# Altium schematic symbol library CM.SchLib: 57 symbols (part 1 of 2)
Pins are listed as number, name and electrical type; pins without a type are passive.

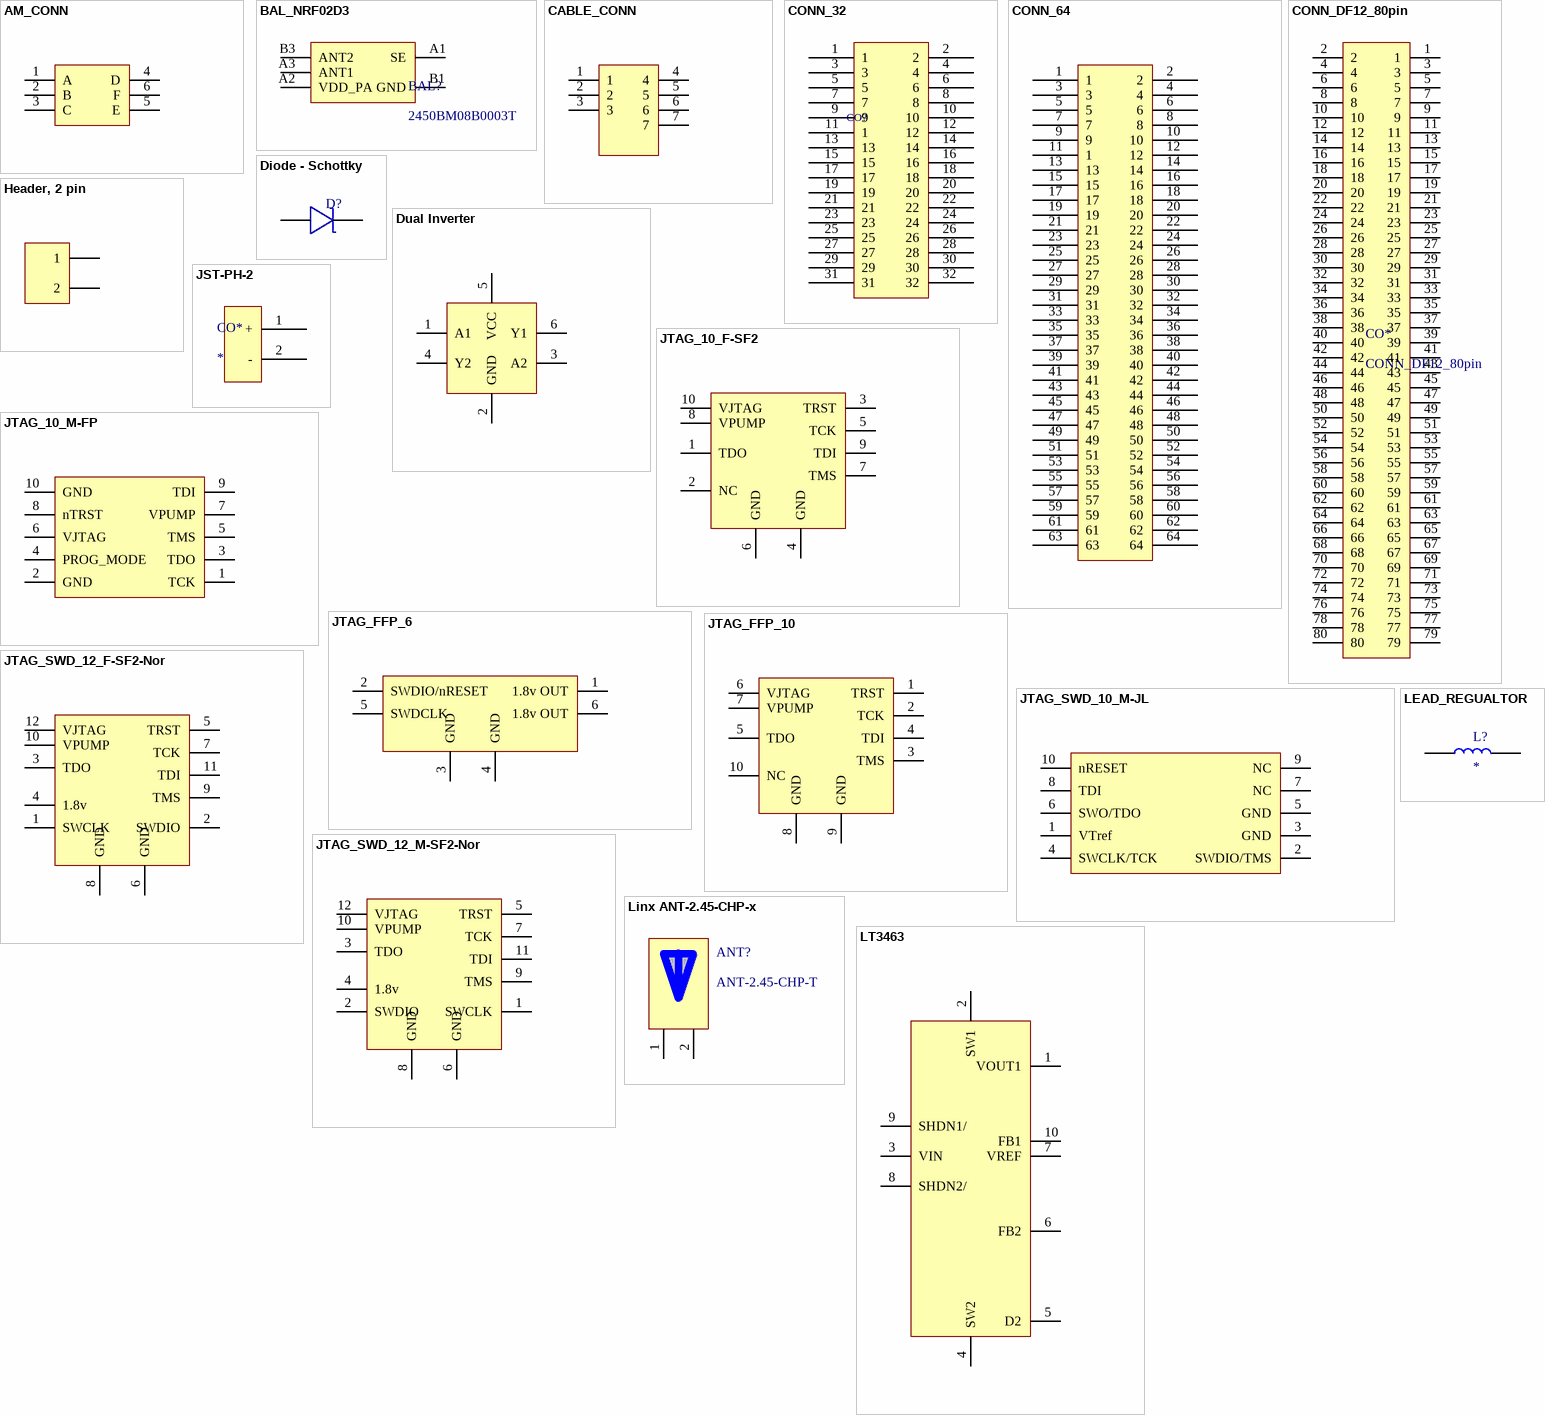
[diagram p0: symbols AM_CONN to LT3463]

## AM_CONN
designator CO?, comment A79613-001
Manufacturer: Omnetics; Manufacturer PN: A79613-001
footprint AM_conn_th
pins: 1 A, 2 B, 3 C, 4 D, 5 E, 6 F

## BAL_NRF02D3
designator BAL?, comment 2450BM08B0003T
BALUN; Manufacturer: Johnson; Supplier PN: 712-1582-1-ND; Supplier: Digikey; Manufacturer PN: 2450BM08B0003T
footprint BALUN_PACKAGE
pins: A1 SE, A2 VDD_PA, A3 ANT1, B1 GND, B3 ANT2

## CABLE_CONN
designator CO?
Alternate connection to AM cable
footprint cable_conn
pins: 1, 2, 3, 4, 5, 6, 7

## CONN_32
designator CO?
footprint CONN_100MIL_32
pins: 1, 2, 3, 4, 5, 6, 7, 8, 9, 10, 11 1, 12, 13, 14, 15, 16, 17, 18, 19, 20, 21, 22, 23, 24, 25, 26, 27, 28, 29, 30, 31, 32

## CONN_64
designator CO?
footprint CONN_FPC_XF2W-6415-1AE (64 pin FFC connector)
footprint CONN_100MIL_64
pins: 1, 2, 3, 4, 5, 6, 7, 8, 9, 10, 11 1, 12, 13, 14, 15, 16, 17, 18, 19, 20, 21, 22, 23, 24, 25, 26, 27, 28, 29, 30, 31, 32, 33, 34, 35, 36, 37, 38, 39, 40, 41, 42, 43, 44, 45, 46, 47, 48, 49, 50, 51, 52, 53, 54, 55, 56, 57, 58, 59, 60, 61, 62, 63, 64

## CONN_DF12_80pin
designator CO*
Manufacturer PN: DF12(3.0)-80DP-0.5V; Manufacturer: Hirose; Supplier PN: H5225CT-ND; Supplier: Digikey
footprint CONN_DF12(3.0)-80DP_bottom (Hirose header 80 pos 3.0mm stack height 0.5mm pitch, pin guides, for mirroring)
footprint CONN_DF12(3.0)-80DP_top (Hirose header 80 pos 3.0mm stack height 0.5mm pitch, pin guides, for top mounting)
pins: 1, 2, 3, 4, 5, 6, 7, 8, 9, 10, 11, 12, 13, 14, 15, 16, 17, 18, 19, 20, 21, 22, 23, 24, 25, 26, 27, 28, 29, 30, 31, 32, 33, 34, 35, 36, 37, 38, 39, 40, 41, 42, 43, 44, 45, 46, 47, 48, 49, 50, 51, 52, 53, 54, 55, 56, 57, 58, 59, 60, 61, 62, 63, 64, 65, 66, 67, 68, 69, 70, 71, 72, 73, 74, 75, 76, 77, 78, 79, 80

## Diode - Schottky
designator D?
Supplier: Digikey
footprint X3-WLB1006-2
footprint fSC_toshiba (diode)
pins: 1 C, 2 A

## Dual Inverter
designator U?, comment NC7WV04L6X
IC; Manufacturer: Fairchild; Manufacturer PN: NC7WV04L6X; Supplier: Digikey; Supplier PN: NC7WV04L6XCT-ND
footprint 6micropak
pins: 1 A1, 2 GND, 3 A2, 4 Y2, 5 VCC, 6 Y1

## Header, 2 pin
designator CO?
footprint Header, 2 pin, 100mil
footprint Header, 2 pin, 2mm(79mil)
footprint Header, 2 pin, 2mm(79mil), no outline
pins: 1, 2

## JST-PH-2
designator CO*
Supplier: *
footprint JST-PH-2-TE-TH (JST connector, PH type, 2 pin, top entry, through-hole)
pins: 1 +, 2 -

## JTAG_10_F-SF2
designator CO
10 pin female JTAG header for SmartFusion2; Manufacturer: Samtec; Manufacturer PN: CLP-105-02-x-D; Supplier: Digikey; Supplier PN: SAM1153-05-ND
footprint CONN_10-CLP (CLP-105-xx-x-D)
pins: 1 TDO, 2 NC, 3 TRST, 4 GND (power), 5 TCK, 6 GND (power), 7 TMS, 8 VPUMP (power), 9 TDI, 10 VJTAG (power)

## JTAG_10_M-FP
designator CO
10 pin male JTAG header for FlashPro; Manufacturer: Samtec; Manufacturer PN: FTS(H)-
footprint CONN_10-TSM (TSM-105-XX-X-dv-X)
pins: 1 TCK, 2 GND, 3 TDO, 4 PROG_MODE, 5 TMS, 6 VJTAG (power), 7 VPUMP, 8 nTRST (power), 9 TDI, 10 GND (power)

## JTAG_FFP_6
designator CO
Manufacturer: *; Manufacturer PN: *; Supplier: Digikey; Supplier PN: *
footprint ffp-6pin
pins: 1 1.8v OUT (power), 2 SWDIO/nRESET, 3 GND (power), 4 GND (power), 5 SWDCLK, 6 1.8v OUT (power)

## JTAG_FFP_10
designator CO
Manufacturer: *; Manufacturer PN: *; Supplier: Digikey; Supplier PN: *
footprint ffp-10pin
pins: 1 TRST, 2 TCK, 3 TMS, 4 TDI, 5 TDO, 6 VJTAG (power), 7 VPUMP (power), 8 GND (power), 9 GND (power), 10 NC

## JTAG_SWD_10_M-JL
designator CO
10 pin male JTAG/SWD header for Jlink; Manufacturer: Samtec; Manufacturer PN: FTS(H)-
footprint CONN_10-FTSH (FTSH-105-xx-x-DV)
footprint CONN_10-TSM (TSM-105-XX-X-dv-X)
footprint CONN_10-M50 (M50-3600542)
pins: 1 VTref, 2 SWDIO/TMS, 3 GND, 4 SWCLK/TCK, 5 GND, 6 SWO/TDO (power), 7 NC, 8 TDI (power), 9 NC, 10 nRESET (power)

## JTAG_SWD_12_F-SF2-Nor
designator CO
12 pin female JTAG/SWD header for SmartFusion2 and Nordic; Manufacturer: Samtec; Manufacturer PN: CLP-105-02-x-D; Supplier: Digikey; Supplier PN: SAM1153-05-ND
footprint CONN_12-CLP (CLP-106-xx-x-D)
pins: 1 SWCLK, 2 SWDIO, 3 TDO, 4 1.8v, 5 TRST, 6 GND (power), 7 TCK, 8 GND (power), 9 TMS, 10 VPUMP (power), 11 TDI, 12 VJTAG (power)

## JTAG_SWD_12_M-SF2-Nor
designator CO
12 pin male JTAG/SWD header for SmartFusion2 and Nordic; Manufacturer: Samtec; Manufacturer PN: FTS(H)-
footprint CONN_12-FTSH - flipped (FTSH-106-xx-x-DV)
pins: 1 SWCLK, 2 SWDIO, 3 TDO, 4 1.8v, 5 TRST, 6 GND (power), 7 TCK, 8 GND (power), 9 TMS, 10 VPUMP (power), 11 TDI, 12 VJTAG (power)

## LEAD_REGUALTOR
designator L?
Inductor
footprint LEAD_REGULATOR
pins: 1, 2

## Linx ANT-2.45-CHP-x
designator ANT?, comment ANT-2.45-CHP-T
Amtenna; Manufacturer: Linx; Supplier PN: ANT-2.45-CHPCT-ND; Supplier: Digikey; Manufacturer PN: ANT-2.45-CHP-T
footprint ANTENNACHIP
pins: 1 IN, 2 NC

## LT3463
designator U?, comment LT3463EDD#PBF
Buck/boost DC-DC; Manufacturer: Linear; Manufacturer PN: LT3463EDD#PBF; Supplier: Digikey; Supplier PN: LT3463EDD#PBF-ND
footprint DFN-10
pins: 1 VOUT1, 2 SW1, 3 VIN, 4 SW2, 5 D2, 6 FB2, 7 VREF, 8 SHDN2/, 9 SHDN1/, 10 FB1, 11 GND hidden to GND

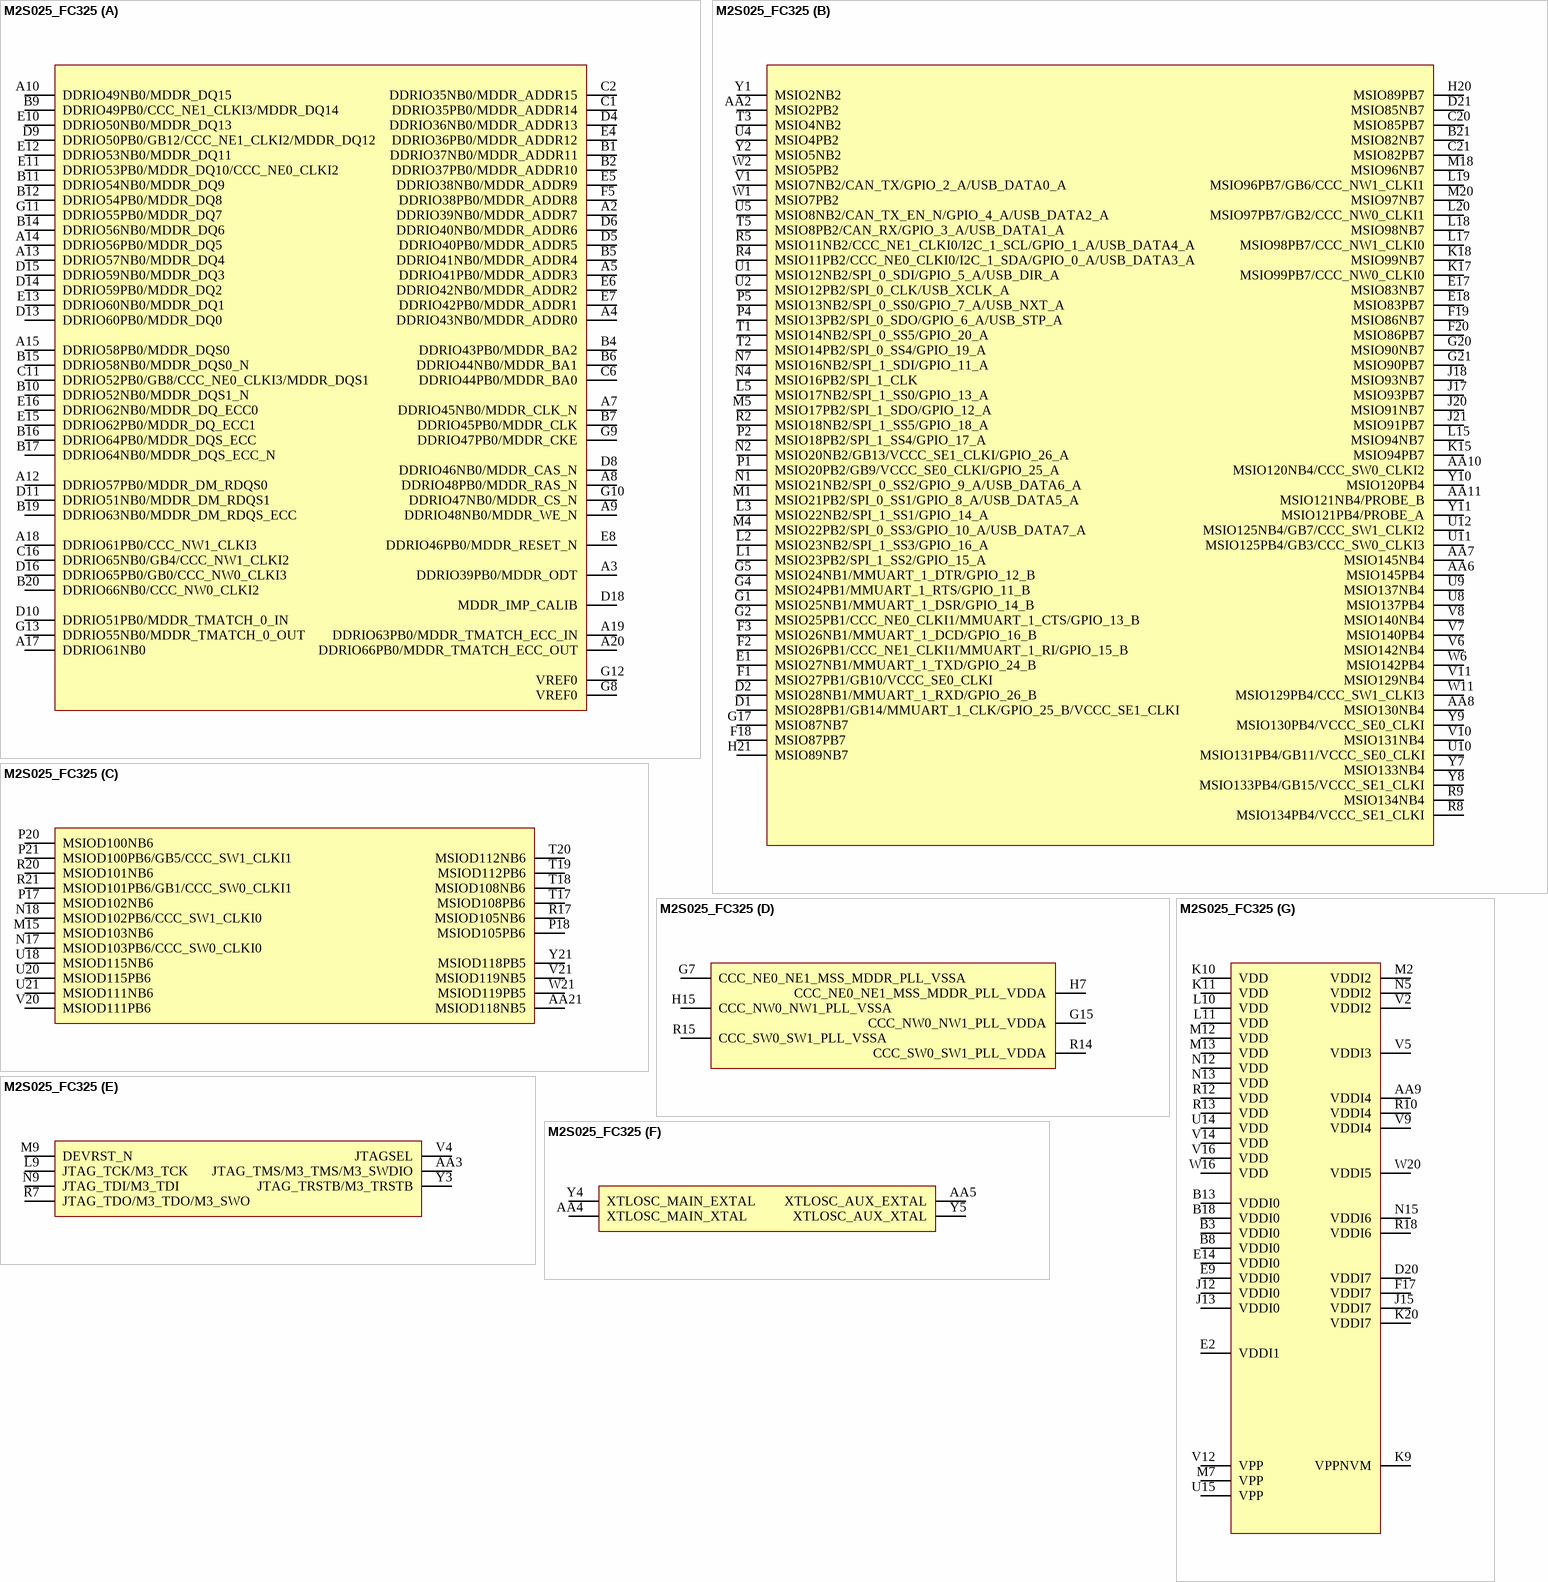
[diagram p1: symbol M2S025_FC325]

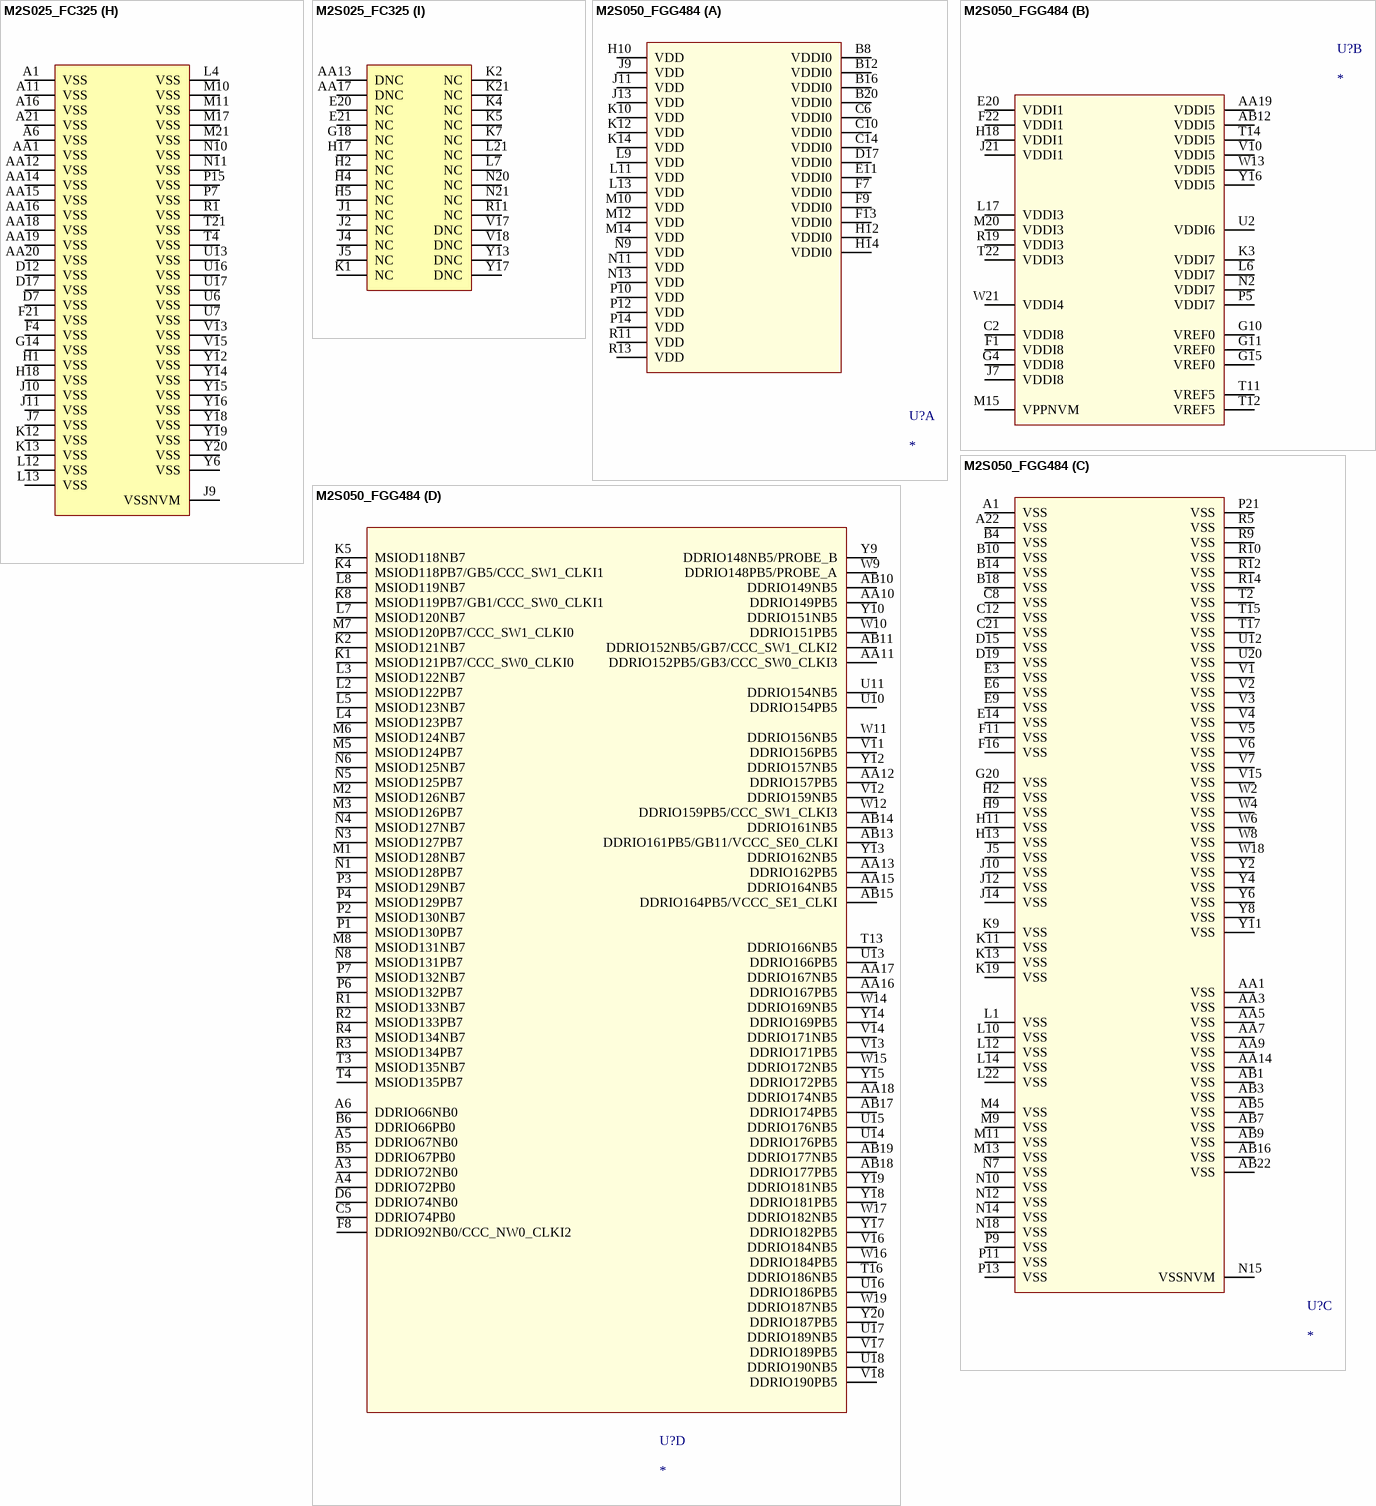
[diagram p2: symbols M2S025_FC325 to M2S050_FGG484]

## M2S025_FC325
designator U?
SmartFusion2; Manufacturer PN: M2S025-FCS325; Manufacturer: Microsemi; Supplier: Microsemi; Supplier PN: M2S025-FCSG325I
footprint MCSM-CS-325 (BGA, 325-Balls, Body 11x11mm, Pitch 0.5mm)
part A pins: A2 DDRIO39NB0/MDDR_ADDR7, A3 DDRIO39PB0/MDDR_ODT, A4 DDRIO43NB0/MDDR_ADDR0, A5 DDRIO41PB0/MDDR_ADDR3, A7 DDRIO45NB0/MDDR_CLK_N, A8 DDRIO48PB0/MDDR_RAS_N, A9 DDRIO48NB0/MDDR_WE_N, A10 DDRIO49NB0/MDDR_DQ15, A12 DDRIO57PB0/MDDR_DM_RDQS0, A13 DDRIO57NB0/MDDR_DQ4, A14 DDRIO56PB0/MDDR_DQ5, A15 DDRIO58PB0/MDDR_DQS0, A17 DDRIO61NB0, A18 DDRIO61PB0/CCC_NW1_CLKI3, A19 DDRIO63PB0/MDDR_TMATCH_ECC_IN, A20 DDRIO66PB0/MDDR_TMATCH_ECC_OUT, B1 DDRIO37NB0/MDDR_ADDR11, B2 DDRIO37PB0/MDDR_ADDR10, B4 DDRIO43PB0/MDDR_BA2, B5 DDRIO41NB0/MDDR_ADDR4, B6 DDRIO44NB0/MDDR_BA1, B7 DDRIO45PB0/MDDR_CLK, B9 DDRIO49PB0/CCC_NE1_CLKI3/MDDR_DQ14, B10 DDRIO52NB0/MDDR_DQS1_N, B11 DDRIO54NB0/MDDR_DQ9, B12 DDRIO54PB0/MDDR_DQ8, B14 DDRIO56NB0/MDDR_DQ6, B15 DDRIO58NB0/MDDR_DQS0_N, B16 DDRIO64PB0/MDDR_DQS_ECC, B17 DDRIO64NB0/MDDR_DQS_ECC_N, B19 DDRIO63NB0/MDDR_DM_RDQS_ECC, B20 DDRIO66NB0/CCC_NW0_CLKI2, C1 DDRIO35PB0/MDDR_ADDR14, C2 DDRIO35NB0/MDDR_ADDR15, C6 DDRIO44PB0/MDDR_BA0, C11 DDRIO52PB0/GB8/CCC_NE0_CLKI3/MDDR_DQS1, C16 DDRIO65NB0/GB4/CCC_NW1_CLKI2, D4 DDRIO36NB0/MDDR_ADDR13, D5 DDRIO40PB0/MDDR_ADDR5, D6 DDRIO40NB0/MDDR_ADDR6, D8 DDRIO46NB0/MDDR_CAS_N, D9 DDRIO50PB0/GB12/CCC_NE1_CLKI2/MDDR_DQ12, D10 DDRIO51PB0/MDDR_TMATCH_0_IN, D11 DDRIO51NB0/MDDR_DM_RDQS1, D13 DDRIO60PB0/MDDR_DQ0, D14 DDRIO59PB0/MDDR_DQ2, D15 DDRIO59NB0/MDDR_DQ3, D16 DDRIO65PB0/GB0/CCC_NW0_CLKI3, D18 MDDR_IMP_CALIB, E4 DDRIO36PB0/MDDR_ADDR12, E5 DDRIO38NB0/MDDR_ADDR9, E6 DDRIO42NB0/MDDR_ADDR2, E7 DDRIO42PB0/MDDR_ADDR1, E8 DDRIO46PB0/MDDR_RESET_N, E10 DDRIO50NB0/MDDR_DQ13, E11 DDRIO53PB0/MDDR_DQ10/CCC_NE0_CLKI2, E12 DDRIO53NB0/MDDR_DQ11, E13 DDRIO60NB0/MDDR_DQ1, E15 DDRIO62PB0/MDDR_DQ_ECC1, E16 DDRIO62NB0/MDDR_DQ_ECC0, F5 DDRIO38PB0/MDDR_ADDR8, G8 VREF0, G9 DDRIO47PB0/MDDR_CKE, G10 DDRIO47NB0/MDDR_CS_N, G11 DDRIO55PB0/MDDR_DQ7, G12 VREF0, G13 DDRIO55NB0/MDDR_TMATCH_0_OUT
part B pins: AA2 MSIO2PB2, AA6 MSIO145PB4, AA7 MSIO145NB4, AA8 MSIO130NB4, AA10 MSIO120NB4/CCC_SW0_CLKI2, AA11 MSIO121NB4/PROBE_B, B21 MSIO82NB7, C20 MSIO85PB7, C21 MSIO82PB7, D1 MSIO28PB1/GB14/MMUART_1_CLK/GPIO_25_B/VCCC_SE1_CLKI, D2 MSIO28NB1/MMUART_1_RXD/GPIO_26_B, D21 MSIO85NB7, E1 MSIO27NB1/MMUART_1_TXD/GPIO_24_B, E17 MSIO83NB7, E18 MSIO83PB7, F1 MSIO27PB1/GB10/VCCC_SE0_CLKI, F2 MSIO26PB1/CCC_NE1_CLKI1/MMUART_1_RI/GPIO_15_B, F3 MSIO26NB1/MMUART_1_DCD/GPIO_16_B, F18 MSIO87PB7, F19 MSIO86NB7, F20 MSIO86PB7, G1 MSIO25NB1/MMUART_1_DSR/GPIO_14_B, G2 MSIO25PB1/CCC_NE0_CLKI1/MMUART_1_CTS/GPIO_13_B, G4 MSIO24PB1/MMUART_1_RTS/GPIO_11_B, G5 MSIO24NB1/MMUART_1_DTR/GPIO_12_B, G17 MSIO87NB7, G20 MSIO90NB7, G21 MSIO90PB7, H20 MSIO89PB7, H21 MSIO89NB7, J17 MSIO93PB7, J18 MSIO93NB7, J20 MSIO91NB7, J21 MSIO91PB7, K15 MSIO94PB7, K17 MSIO99PB7/CCC_NW0_CLKI0, K18 MSIO99NB7, L1 MSIO23PB2/SPI_1_SS2/GPIO_15_A, L2 MSIO23NB2/SPI_1_SS3/GPIO_16_A, L3 MSIO22NB2/SPI_1_SS1/GPIO_14_A, L5 MSIO17NB2/SPI_1_SS0/GPIO_13_A, L15 MSIO94NB7, L17 MSIO98PB7/CCC_NW1_CLKI0, L18 MSIO98NB7, L19 MSIO96PB7/GB6/CCC_NW1_CLKI1, L20 MSIO97PB7/GB2/CCC_NW0_CLKI1, M1 MSIO21PB2/SPI_0_SS1/GPIO_8_A/USB_DATA5_A, M4 MSIO22PB2/SPI_0_SS3/GPIO_10_A/USB_DATA7_A, M5 MSIO17PB2/SPI_1_SDO/GPIO_12_A, M18 MSIO96NB7, M20 MSIO97NB7, N1 MSIO21NB2/SPI_0_SS2/GPIO_9_A/USB_DATA6_A, N2 MSIO20NB2/GB13/VCCC_SE1_CLKI/GPIO_26_A, N4 MSIO16PB2/SPI_1_CLK, N7 MSIO16NB2/SPI_1_SDI/GPIO_11_A, P1 MSIO20PB2/GB9/VCCC_SE0_CLKI/GPIO_25_A, P2 MSIO18PB2/SPI_1_SS4/GPIO_17_A, P4 MSIO13PB2/SPI_0_SDO/GPIO_6_A/USB_STP_A, P5 MSIO13NB2/SPI_0_SS0/GPIO_7_A/USB_NXT_A, R2 MSIO18NB2/SPI_1_SS5/GPIO_18_A, R4 MSIO11PB2/CCC_NE0_CLKI0/I2C_1_SDA/GPIO_0_A/USB_DATA3_A, R5 MSIO11NB2/CCC_NE1_CLKI0/I2C_1_SCL/GPIO_1_A/USB_DATA4_A, R8 MSIO134PB4/VCCC_SE1_CLKI, R9 MSIO134NB4, T1 MSIO14NB2/SPI_0_SS5/GPIO_20_A, T2 MSIO14PB2/SPI_0_SS4/GPIO_19_A, T3 MSIO4NB2, T5 MSIO8PB2/CAN_RX/GPIO_3_A/USB_DATA1_A, U1 MSIO12NB2/SPI_0_SDI/GPIO_5_A/USB_DIR_A, U2 MSIO12PB2/SPI_0_CLK/USB_XCLK_A, U4 MSIO4PB2, U5 MSIO8NB2/CAN_TX_EN_N/GPIO_4_A/USB_DATA2_A, U8 MSIO137PB4, U9 MSIO137NB4, U10 MSIO131PB4/GB11/VCCC_SE0_CLKI, U11 MSIO125PB4/GB3/CCC_SW0_CLKI3, U12 MSIO125NB4/GB7/CCC_SW1_CLKI2, V1 MSIO7NB2/CAN_TX/GPIO_2_A/USB_DATA0_A, V6 MSIO142NB4, V7 MSIO140PB4, V8 MSIO140NB4, V10 MSIO131NB4, V11 MSIO129NB4, W1 MSIO7PB2, W2 MSIO5PB2, W6 MSIO142PB4, W11 MSIO129PB4/CCC_SW1_CLKI3, Y1 MSIO2NB2, Y2 MSIO5NB2, Y7 MSIO133NB4, Y8 MSIO133PB4/GB15/VCCC_SE1_CLKI, Y9 MSIO130PB4/VCCC_SE0_CLKI, Y10 MSIO120PB4, Y11 MSIO121PB4/PROBE_A
part C pins: AA21 MSIOD118NB5, M15 MSIOD103NB6, N17 MSIOD103PB6/CCC_SW0_CLKI0, N18 MSIOD102PB6/CCC_SW1_CLKI0, P17 MSIOD102NB6, P18 MSIOD105PB6, P20 MSIOD100NB6, P21 MSIOD100PB6/GB5/CCC_SW1_CLKI1, R17 MSIOD105NB6, R20 MSIOD101NB6, R21 MSIOD101PB6/GB1/CCC_SW0_CLKI1, T17 MSIOD108PB6, T18 MSIOD108NB6, T19 MSIOD112PB6, T20 MSIOD112NB6, U18 MSIOD115NB6, U20 MSIOD115PB6, U21 MSIOD111NB6, V20 MSIOD111PB6, V21 MSIOD119NB5, W21 MSIOD119PB5, Y21 MSIOD118PB5
part D pins: G7 CCC_NE0_NE1_MSS_MDDR_PLL_VSSA (power), G15 CCC_NW0_NW1_PLL_VDDA (power), H7 CCC_NE0_NE1_MSS_MDDR_PLL_VDDA (power), H15 CCC_NW0_NW1_PLL_VSSA (power), R14 CCC_SW0_SW1_PLL_VDDA (power), R15 CCC_SW0_SW1_PLL_VSSA (power)
part E pins: AA3 JTAG_TMS/M3_TMS/M3_SWDIO, L9 JTAG_TCK/M3_TCK, M9 DEVRST_N, N9 JTAG_TDI/M3_TDI, R7 JTAG_TDO/M3_TDO/M3_SWO, V4 JTAGSEL, Y3 JTAG_TRSTB/M3_TRSTB
part F pins: AA4 XTLOSC_MAIN_XTAL, AA5 XTLOSC_AUX_EXTAL, Y4 XTLOSC_MAIN_EXTAL, Y5 XTLOSC_AUX_XTAL
part G pins: AA9 VDDI4, B3 VDDI0, B8 VDDI0, B13 VDDI0, B18 VDDI0, D20 VDDI7, E2 VDDI1 (power), E9 VDDI0, E14 VDDI0, F17 VDDI7, J12 VDDI0, J13 VDDI0, J15 VDDI7, K9 VPPNVM (power), K10 VDD (power), K11 VDD (power), K20 VDDI7, L10 VDD (power), L11 VDD (power), M2 VDDI2 (power), M7 VPP (power), M12 VDD (power), M13 VDD (power), N5 VDDI2 (power), N12 VDD (power), N13 VDD (power), N15 VDDI6 (power), R10 VDDI4, R12 VDD (power), R13 VDD (power), R18 VDDI6, U14 VDD (power), U15 VPP (power), V2 VDDI2 (power), V5 VDDI3, V9 VDDI4, V12 VPP (power), V14 VDD (power), V16 VDD (power), W16 VDD (power), W20 VDDI5
part H pins: A1 VSS (power), A6 VSS (power), A11 VSS (power), A16 VSS (power), A21 VSS (power), AA1 VSS (power), AA12 VSS (power), AA14 VSS (power), AA15 VSS (power), AA16 VSS (power), AA18 VSS (power), AA19 VSS (power), AA20 VSS (power), D7 VSS (power), D12 VSS (power), D17 VSS (power), F4 VSS (power), F21 VSS (power), G14 VSS (power), H1 VSS (power), H18 VSS (power), J7 VSS (power), J9 VSSNVM (power), J10 VSS (power), J11 VSS (power), K12 VSS (power), K13 VSS (power), L4 VSS (power), L12 VSS (power), L13 VSS (power), M10 VSS (power), M11 VSS (power), M17 VSS (power), M21 VSS (power), N10 VSS (power), N11 VSS (power), P7 VSS (power), P15 VSS (power), R1 VSS (power), T4 VSS (power), T21 VSS (power), U6 VSS (power), U7 VSS (power), U13 VSS (power), U16 VSS (power), U17 VSS (power), V13 VSS (power), V15 VSS (power), Y6 VSS (power), Y12 VSS (power), Y14 VSS (power), Y15 VSS (power), Y16 VSS (power), Y18 VSS (power), Y19 VSS (power), Y20 VSS (power)
part I pins: AA13 DNC, AA17 DNC, E20 NC, E21 NC, G18 NC, H2 NC, H4 NC, H5 NC, H17 NC, J1 NC, J2 NC, J4 NC, J5 NC (power), K1 NC, K2 NC, K4 NC, K5 NC, K7 NC, K21 NC, L7 NC, L21 NC, N20 NC, N21 NC, R11 NC, V17 DNC, V18 DNC (power), Y13 DNC, Y17 DNC

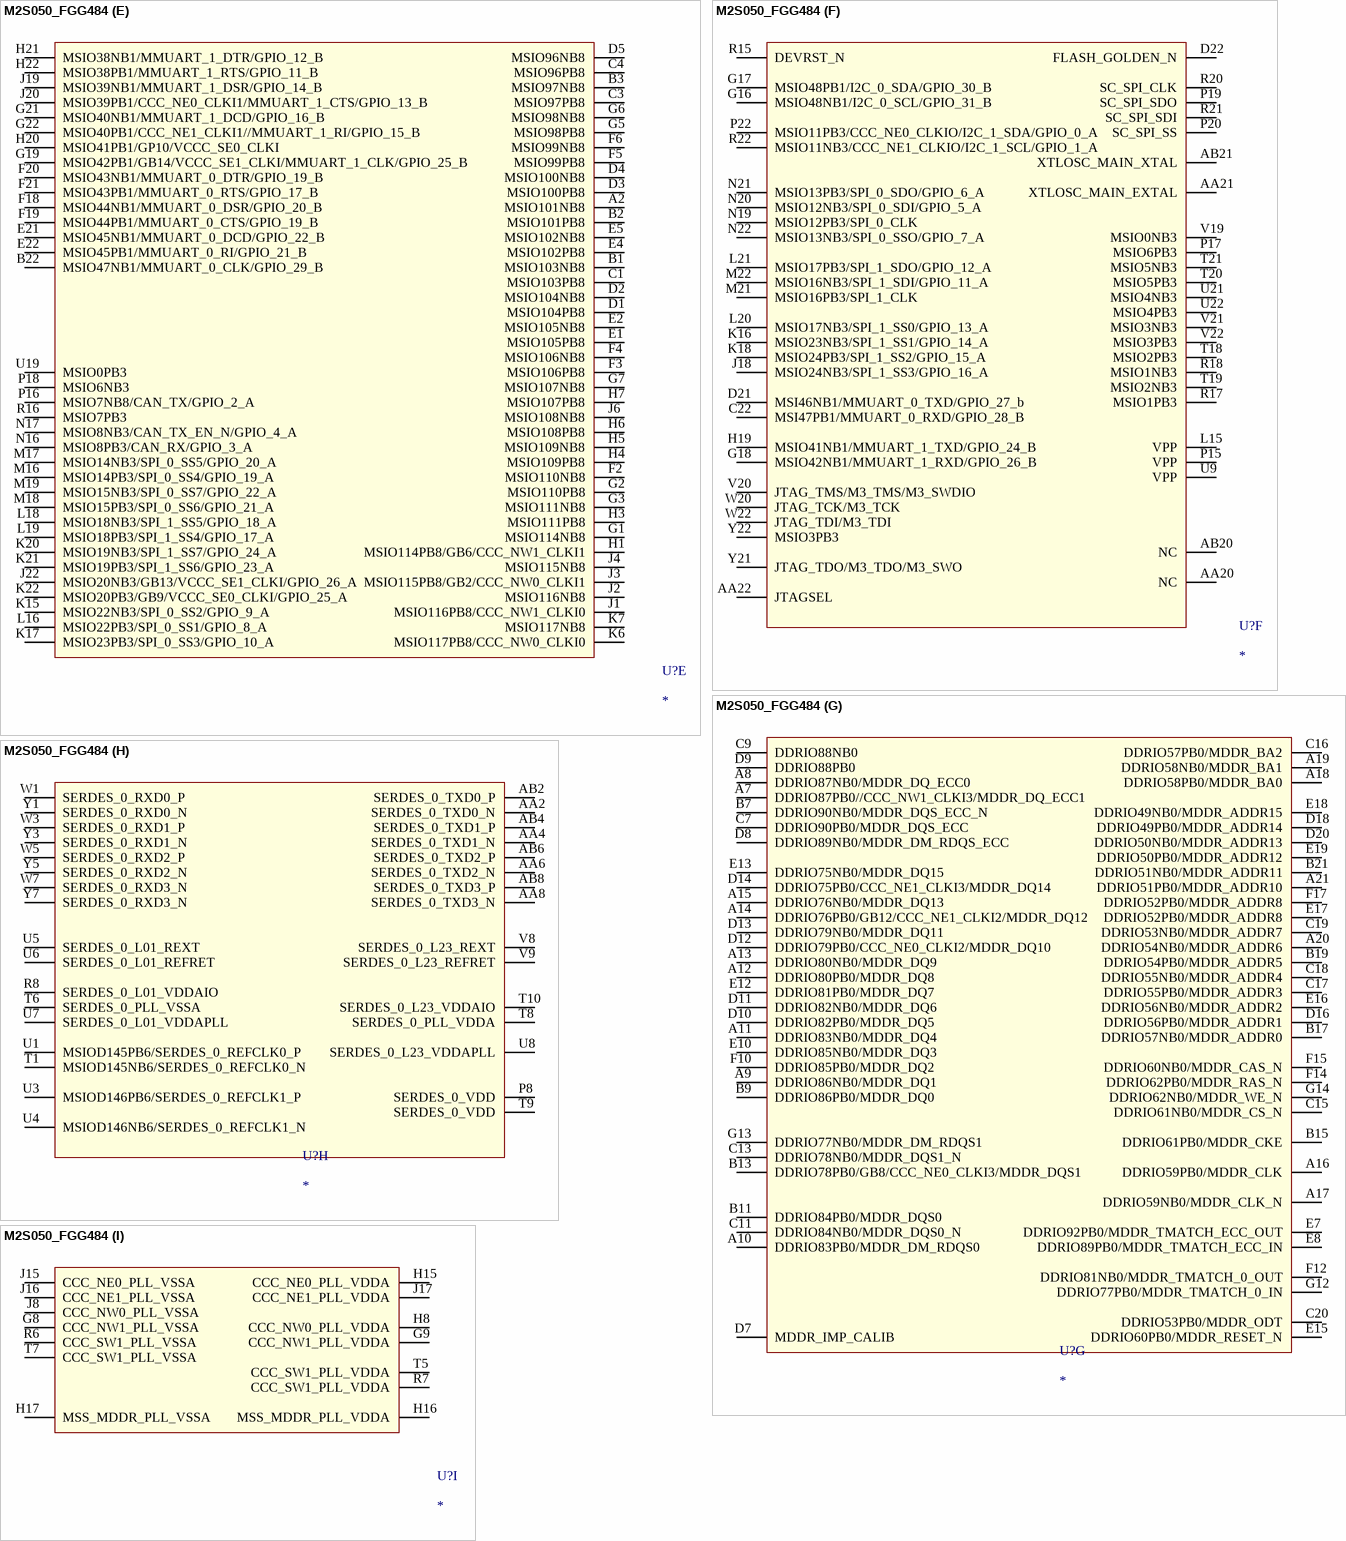
[diagram p3: symbol M2S050_FGG484]

## M2S050_FGG484
designator U?
SmartFusion2
footprint BGA484
part A pins: B8 VDDI0, B12 VDDI0, B16 VDDI0, B20 VDDI0, C6 VDDI0, C10 VDDI0, C14 VDDI0, D17 VDDI0, E11 VDDI0, F7 VDDI0, F9 VDDI0, F13 VDDI0, H10 VDD, H12 VDDI0, H14 VDDI0, J9 VDD, J11 VDD, J13 VDD, K10 VDD, K12 VDD, K14 VDD, L9 VDD, L11 VDD, L13 VDD, M10 VDD, M12 VDD, M14 VDD, N9 VDD, N11 VDD, N13 VDD, P10 VDD, P12 VDD, P14 VDD, R11 VDD, R13 VDD
part B pins: AA19 VDDI5, AB12 VDDI5, C2 VDDI8, E20 VDDI1, F1 VDDI8, F22 VDDI1, G4 VDDI8, G10 VREF0, G11 VREF0, G15 VREF0, H18 VDDI1, J7 VDDI8, J21 VDDI1, K3 VDDI7, L6 VDDI7, L17 VDDI3, M15 VPPNVM, M20 VDDI3, N2 VDDI7, P5 VDDI7, R19 VDDI3, T11 VREF5, T12 VREF5, T14 VDDI5, T22 VDDI3, U2 VDDI6, V10 VDDI5, W13 VDDI5, W21 VDDI4, Y16 VDDI5
part C pins: A1 VSS, A22 VSS, AA1 VSS, AA3 VSS, AA5 VSS, AA7 VSS, AA9 VSS, AA14 VSS, AB1 VSS, AB3 VSS, AB5 VSS, AB7 VSS, AB9 VSS, AB16 VSS, AB22 VSS, B4 VSS, B10 VSS, B14 VSS, B18 VSS, C8 VSS, C12 VSS, C21 VSS, D15 VSS, D19 VSS, E3 VSS, E6 VSS, E9 VSS, E14 VSS, F11 VSS, F16 VSS, G20 VSS, H2 VSS, H9 VSS, H11 VSS, H13 VSS, J5 VSS, J10 VSS, J12 VSS, J14 VSS, K9 VSS, K11 VSS, K13 VSS, K19 VSS, L1 VSS, L10 VSS, L12 VSS, L14 VSS, L22 VSS, M4 VSS, M9 VSS, M11 VSS, M13 VSS, N7 VSS, N10 VSS, N12 VSS, N14 VSS, N15 VSSNVM, N18 VSS, P9 VSS, P11 VSS, P13 VSS, P21 VSS, R5 VSS, R9 VSS, R10 VSS, R12 VSS, R14 VSS, T2 VSS, T15 VSS, T17 VSS, U12 VSS, U20 VSS, V1 VSS, V2 VSS, V3 VSS, V4 VSS, V5 VSS, V6 VSS, V7 VSS, V15 VSS, W2 VSS, W4 VSS, W6 VSS, W8 VSS, W18 VSS, Y2 VSS, Y4 VSS, Y6 VSS, Y8 VSS, Y11 VSS
part D pins: A3 DDRIO72NB0, A4 DDRIO72PB0, A5 DDRIO67NB0, A6 DDRIO66NB0, AA10 DDRIO149PB5, AA11 DDRIO152PB5/GB3/CCC_SW0_CLKI3, AA12 DDRIO157PB5, AA13 DDRIO162PB5, AA15 DDRIO164NB5, AA16 DDRIO167PB5, AA17 DDRIO167NB5, AA18 DDRIO174NB5, AB10 DDRIO149NB5, AB11 DDRIO152NB5/GB7/CCC_SW1_CLKI2, AB13 DDRIO161PB5/GB11/VCCC_SE0_CLKI, AB14 DDRIO161NB5, AB15 DDRIO164PB5/VCCC_SE1_CLKI, AB17 DDRIO174PB5, AB18 DDRIO177PB5, AB19 DDRIO177NB5, B5 DDRIO67PB0, B6 DDRIO66PB0, C5 DDRIO74PB0, D6 DDRIO74NB0, F8 DDRIO92NB0/CCC_NW0_CLKI2, K1 MSIOD121PB7/CCC_SW0_CLKI0, K2 MSIOD121NB7, K4 MSIOD118PB7/GB5/CCC_SW1_CLKI1, K5 MSIOD118NB7, K8 MSIOD119PB7/GB1/CCC_SW0_CLKI1, L2 MSIOD122PB7, L3 MSIOD122NB7, L4 MSIOD123PB7, L5 MSIOD123NB7, L7 MSIOD120NB7, L8 MSIOD119NB7, M1 MSIOD128NB7, M2 MSIOD126NB7, M3 MSIOD126PB7, M5 MSIOD124PB7, M6 MSIOD124NB7, M7 MSIOD120PB7/CCC_SW1_CLKI0, M8 MSIOD131NB7, N1 MSIOD128PB7, N3 MSIOD127PB7, N4 MSIOD127NB7, N5 MSIOD125PB7, N6 MSIOD125NB7, N8 MSIOD131PB7, P1 MSIOD130PB7, P2 MSIOD130NB7, P3 MSIOD129NB7, P4 MSIOD129PB7, P6 MSIOD132PB7, P7 MSIOD132NB7, R1 MSIOD133NB7, R2 MSIOD133PB7, R3 MSIOD134PB7, R4 MSIOD134NB7, T3 MSIOD135NB7, T4 MSIOD135PB7, T13 DDRIO166NB5, T16 DDRIO186NB5, U10 DDRIO154PB5, U11 DDRIO154NB5, U13 DDRIO166PB5, U14 DDRIO176PB5, U15 DDRIO176NB5, U16 DDRIO186PB5, U17 DDRIO189NB5, U18 DDRIO190NB5, V11 DDRIO156PB5, V12 DDRIO159NB5, V13 DDRIO171PB5, V14 DDRIO171NB5, V16 DDRIO184NB5, V17 DDRIO189PB5, V18 DDRIO190PB5, W9 DDRIO148PB5/PROBE_A, W10 DDRIO151PB5, W11 DDRIO156NB5, W12 DDRIO159PB5/CCC_SW1_CLKI3, W14 DDRIO169NB5, W15 DDRIO172NB5, W16 DDRIO184PB5, W17 DDRIO182NB5, W19 DDRIO187NB5, Y9 DDRIO148NB5/PROBE_B, Y10 DDRIO151NB5, Y12 DDRIO157NB5, Y13 DDRIO162NB5, Y14 DDRIO169PB5, Y15 DDRIO172PB5, Y17 DDRIO182PB5, Y18 DDRIO181PB5, Y19 DDRIO181NB5, Y20 DDRIO187PB5
part E pins: A2 MSIO101NB8, B1 MSIO103NB8, B2 MSIO101PB8, B3 MSIO97NB8, B22 MSIO47NB1/MMUART_0_CLK/GPIO_29_B, C1 MSIO103PB8, C3 MSIO97PB8, C4 MSIO96PB8, D1 MSIO104PB8, D2 MSIO104NB8, D3 MSIO100PB8, D4 MSIO100NB8, D5 MSIO96NB8, E1 MSIO105PB8, E2 MSIO105NB8, E4 MSIO102PB8, E5 MSIO102NB8, E21 MSIO45NB1/MMUART_0_DCD/GPIO_22_B, E22 MSIO45PB1/MMUART_0_RI/GPIO_21_B, F2 MSIO110NB8, F3 MSIO106PB8, F4 MSIO106NB8, F5 MSIO99PB8, F6 MSIO99NB8, F18 MSIO44NB1/MMUART_0_DSR/GPIO_20_B, F19 MSIO44PB1/MMUART_0_CTS/GPIO_19_B, F20 MSIO43NB1/MMUART_0_DTR/GPIO_19_B, F21 MSIO43PB1/MMUART_0_RTS/GPIO_17_B, G1 MSIO114NB8, G2 MSIO110PB8, G3 MSIO111NB8, G5 MSIO98PB8, G6 MSIO98NB8, G7 MSIO107NB8, G19 MSIO42PB1/GB14/VCCC_SE1_CLKI/MMUART_1_CLK/GPIO_25_B, G21 MSIO40NB1/MMUART_1_DCD/GPIO_16_B, G22 MSIO40PB1/CCC_NE1_CLKI1//MMUART_1_RI/GPIO_15_B, H1 MSIO114PB8/GB6/CCC_NW1_CLKI1, H3 MSIO111PB8, H4 MSIO109PB8, H5 MSIO109NB8, H6 MSIO108PB8, H7 MSIO107PB8, H20 MSIO41PB1/GP10/VCCC_SE0_CLKI, H21 MSIO38NB1/MMUART_1_DTR/GPIO_12_B, H22 MSIO38PB1/MMUART_1_RTS/GPIO_11_B, J1 MSIO116PB8/CCC_NW1_CLKI0, J2 MSIO116NB8, J3 MSIO115PB8/GB2/CCC_NW0_CLKI1, J4 MSIO115NB8, J6 MSIO108NB8, J19 MSIO39NB1/MMUART_1_DSR/GPIO_14_B, J20 MSIO39PB1/CCC_NE0_CLKI1/MMUART_1_CTS/GPIO_13_B, J22 MSIO20NB3/GB13/VCCC_SE1_CLKI/GPIO_26_A, K6 MSIO117PB8/CCC_NW0_CLKI0, K7 MSIO117NB8, K15 MSIO22NB3/SPI_0_SS2/GPIO_9_A, K17 MSIO23PB3/SPI_0_SS3/GPIO_10_A, K20 MSIO19NB3/SPI_1_SS7/GPIO_24_A, K21 MSIO19PB3/SPI_1_SS6/GPIO_23_A, K22 MSIO20PB3/GB9/VCCC_SE0_CLKI/GPIO_25_A, L16 MSIO22PB3/SPI_0_SS1/GPIO_8_A, L18 MSIO18NB3/SPI_1_SS5/GPIO_18_A, L19 MSIO18PB3/SPI_1_SS4/GPIO_17_A, M16 MSIO14PB3/SPI_0_SS4/GPIO_19_A, M17 MSIO14NB3/SPI_0_SS5/GPIO_20_A, M18 MSIO15PB3/SPI_0_SS6/GPIO_21_A, M19 MSIO15NB3/SPI_0_SS7/GPIO_22_A, N16 MSIO8PB3/CAN_RX/GPIO_3_A, N17 MSIO8NB3/CAN_TX_EN_N/GPIO_4_A, P16 MSIO7NB8/CAN_TX/GPIO_2_A, P18 MSIO6NB3, R16 MSIO7PB3, U19 MSIO0PB3
part F pins: AA20 NC, AA21 XTLOSC_MAIN_EXTAL, AA22 JTAGSEL, AB20 NC, AB21 XTLOSC_MAIN_XTAL, C22 MSI47PB1/MMUART_0_RXD/GPIO_28_B, D21 MSI46NB1/MMUART_0_TXD/GPIO_27_b, D22 FLASH_GOLDEN_N, G16 MSIO48NB1/I2C_0_SCL/GPIO_31_B, G17 MSIO48PB1/I2C_0_SDA/GPIO_30_B, G18 MSIO42NB1/MMUART_1_RXD/GPIO_26_B, H19 MSIO41NB1/MMUART_1_TXD/GPIO_24_B, J18 MSIO24NB3/SPI_1_SS3/GPIO_16_A, K16 MSIO23NB3/SPI_1_SS1/GPIO_14_A, K18 MSIO24PB3/SPI_1_SS2/GPIO_15_A, L15 VPP, L20 MSIO17NB3/SPI_1_SS0/GPIO_13_A, L21 MSIO17PB3/SPI_1_SDO/GPIO_12_A, M21 MSIO16PB3/SPI_1_CLK, M22 MSIO16NB3/SPI_1_SDI/GPIO_11_A, N19 MSIO12PB3/SPI_0_CLK, N20 MSIO12NB3/SPI_0_SDI/GPIO_5_A, N21 MSIO13PB3/SPI_0_SDO/GPIO_6_A, N22 MSIO13NB3/SPI_0_SSO/GPIO_7_A, P15 VPP, P17 MSIO6PB3, P19 SC_SPI_SDO, P20 SC_SPI_SS, P22 MSIO11PB3/CCC_NE0_CLKIO/I2C_1_SDA/GPIO_0_A, R15 DEVRST_N, R17 MSIO1PB3, R18 MSIO1NB3, R20 SC_SPI_CLK, R21 SC_SPI_SDI, R22 MSIO11NB3/CCC_NE1_CLKIO/I2C_1_SCL/GPIO_1_A, T18 MSIO2PB3, T19 MSIO2NB3, T20 MSIO5PB3, T21 MSIO5NB3, U9 VPP, U21 MSIO4NB3, U22 MSIO4PB3, V19 MSIO0NB3, V20 JTAG_TMS/M3_TMS/M3_SWDIO, V21 MSIO3NB3, V22 MSIO3PB3, W20 JTAG_TCK/M3_TCK, W22 JTAG_TDI/M3_TDI, Y21 JTAG_TDO/M3_TDO/M3_SWO, Y22 MSIO3PB3
part G pins: A7 DDRIO87PB0//CCC_NW1_CLKI3/MDDR_DQ_ECC1, A8 DDRIO87NB0/MDDR_DQ_ECC0, A9 DDRIO86NB0/MDDR_DQ1, A10 DDRIO83PB0/MDDR_DM_RDQS0, A11 DDRIO83NB0/MDDR_DQ4, A12 DDRIO80PB0/MDDR_DQ8, A13 DDRIO80NB0/MDDR_DQ9, A14 DDRIO76PB0/GB12/CCC_NE1_CLKI2/MDDR_DQ12, A15 DDRIO76NB0/MDDR_DQ13, A16 DDRIO59PB0/MDDR_CLK, A17 DDRIO59NB0/MDDR_CLK_N, A18 DDRIO58PB0/MDDR_BA0, A19 DDRIO58NB0/MDDR_BA1, A20 DDRIO54NB0/MDDR_ADDR6, A21 DDRIO51PB0/MDDR_ADDR10, B7 DDRIO90NB0/MDDR_DQS_ECC_N, B9 DDRIO86PB0/MDDR_DQ0, B11 DDRIO84PB0/MDDR_DQS0, B13 DDRIO78PB0/GB8/CCC_NE0_CLKI3/MDDR_DQS1, B15 DDRIO61PB0/MDDR_CKE, B17 DDRIO57NB0/MDDR_ADDR0, B19 DDRIO54PB0/MDDR_ADDR5, B21 DDRIO51NB0/MDDR_ADDR11, C7 DDRIO90PB0/MDDR_DQS_ECC, C9 DDRIO88NB0, C11 DDRIO84NB0/MDDR_DQS0_N, C13 DDRIO78NB0/MDDR_DQS1_N, C15 DDRIO61NB0/MDDR_CS_N, C16 DDRIO57PB0/MDDR_BA2, C17 DDRIO55PB0/MDDR_ADDR3, C18 DDRIO55NB0/MDDR_ADDR4, C19 DDRIO53NB0/MDDR_ADDR7, C20 DDRIO53PB0/MDDR_ODT, D7 MDDR_IMP_CALIB, D8 DDRIO89NB0/MDDR_DM_RDQS_ECC, D9 DDRIO88PB0, D10 DDRIO82PB0/MDDR_DQ5, D11 DDRIO82NB0/MDDR_DQ6, D12 DDRIO79PB0/CCC_NE0_CLKI2/MDDR_DQ10, D13 DDRIO79NB0/MDDR_DQ11, D14 DDRIO75PB0/CCC_NE1_CLKI3/MDDR_DQ14, D16 DDRIO56PB0/MDDR_ADDR1, D18 DDRIO49PB0/MDDR_ADDR14, D20 DDRIO50NB0/MDDR_ADDR13, E7 DDRIO92PB0/MDDR_TMATCH_ECC_OUT, E8 DDRIO89PB0/MDDR_TMATCH_ECC_IN, E10 DDRIO85NB0/MDDR_DQ3, E12 DDRIO81PB0/MDDR_DQ7, E13 DDRIO75NB0/MDDR_DQ15, E15 DDRIO60PB0/MDDR_RESET_N, E16 DDRIO56NB0/MDDR_ADDR2, E17 DDRIO52PB0/MDDR_ADDR8, E18 DDRIO49NB0/MDDR_ADDR15, E19 DDRIO50PB0/MDDR_ADDR12, F10 DDRIO85PB0/MDDR_DQ2, F12 DDRIO81NB0/MDDR_TMATCH_0_OUT, F14 DDRIO62PB0/MDDR_RAS_N, F15 DDRIO60NB0/MDDR_CAS_N, F17 DDRIO52PB0/MDDR_ADDR8, G12 DDRIO77PB0/MDDR_TMATCH_0_IN, G13 DDRIO77NB0/MDDR_DM_RDQS1, G14 DDRIO62NB0/MDDR_WE_N
part H pins: AA2 SERDES_0_TXD0_N, AA4 SERDES_0_TXD1_N, AA6 SERDES_0_TXD2_N, AA8 SERDES_0_TXD3_N, AB2 SERDES_0_TXD0_P, AB4 SERDES_0_TXD1_P, AB6 SERDES_0_TXD2_P, AB8 SERDES_0_TXD3_P, P8 SERDES_0_VDD, R8 SERDES_0_L01_VDDAIO, T1 MSIOD145NB6/SERDES_0_REFCLK0_N, T6 SERDES_0_PLL_VSSA, T8 SERDES_0_PLL_VDDA, T9 SERDES_0_VDD, T10 SERDES_0_L23_VDDAIO, U1 MSIOD145PB6/SERDES_0_REFCLK0_P, U3 MSIOD146PB6/SERDES_0_REFCLK1_P, U4 MSIOD146NB6/SERDES_0_REFCLK1_N, U5 SERDES_0_L01_REXT, U6 SERDES_0_L01_REFRET, U7 SERDES_0_L01_VDDAPLL, U8 SERDES_0_L23_VDDAPLL, V8 SERDES_0_L23_REXT, V9 SERDES_0_L23_REFRET, W1 SERDES_0_RXD0_P, W3 SERDES_0_RXD1_P, W5 SERDES_0_RXD2_P, W7 SERDES_0_RXD3_N, Y1 SERDES_0_RXD0_N, Y3 SERDES_0_RXD1_N, Y5 SERDES_0_RXD2_N, Y7 SERDES_0_RXD3_N
part I pins: G8 CCC_NW1_PLL_VSSA, G9 CCC_NW1_PLL_VDDA, H8 CCC_NW0_PLL_VDDA, H15 CCC_NE0_PLL_VDDA, H16 MSS_MDDR_PLL_VDDA, H17 MSS_MDDR_PLL_VSSA, J8 CCC_NW0_PLL_VSSA, J15 CCC_NE0_PLL_VSSA, J16 CCC_NE1_PLL_VSSA, J17 CCC_NE1_PLL_VDDA, R6 CCC_SW1_PLL_VSSA, R7 CCC_SW1_PLL_VDDA, T5 CCC_SW1_PLL_VDDA, T7 CCC_SW1_PLL_VSSA

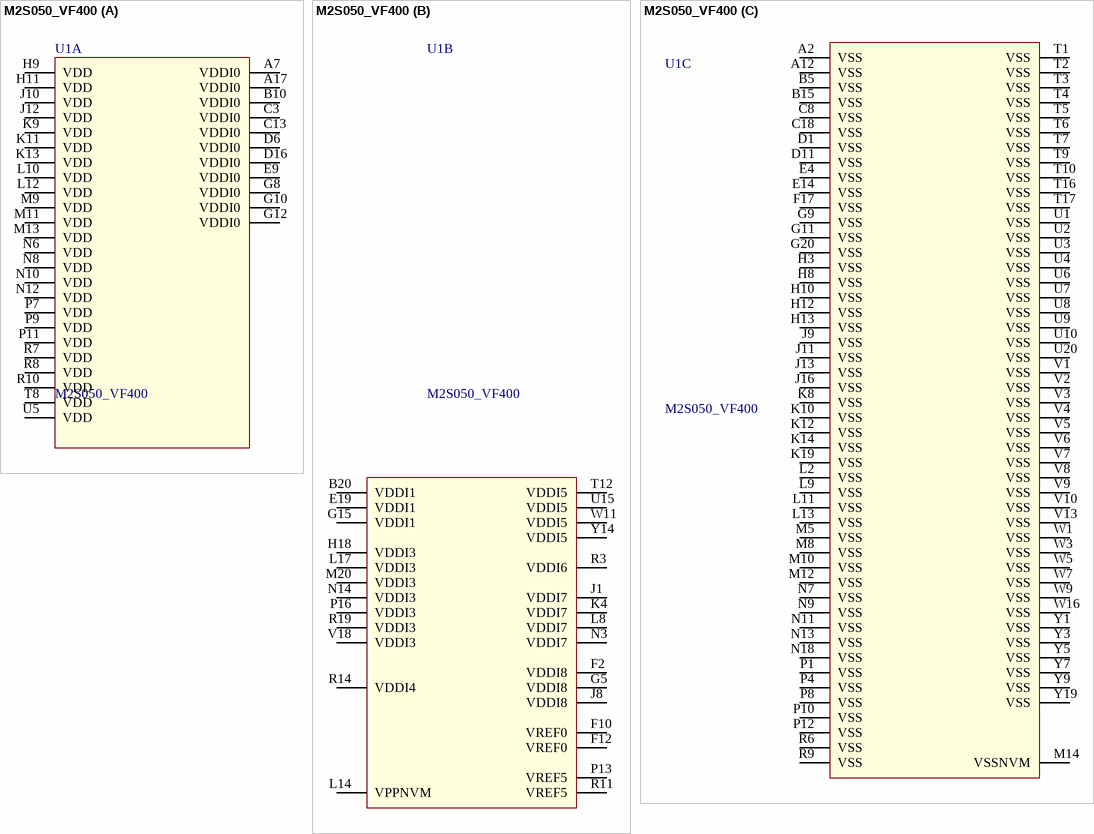
[diagram p4: symbol M2S050_VF400]

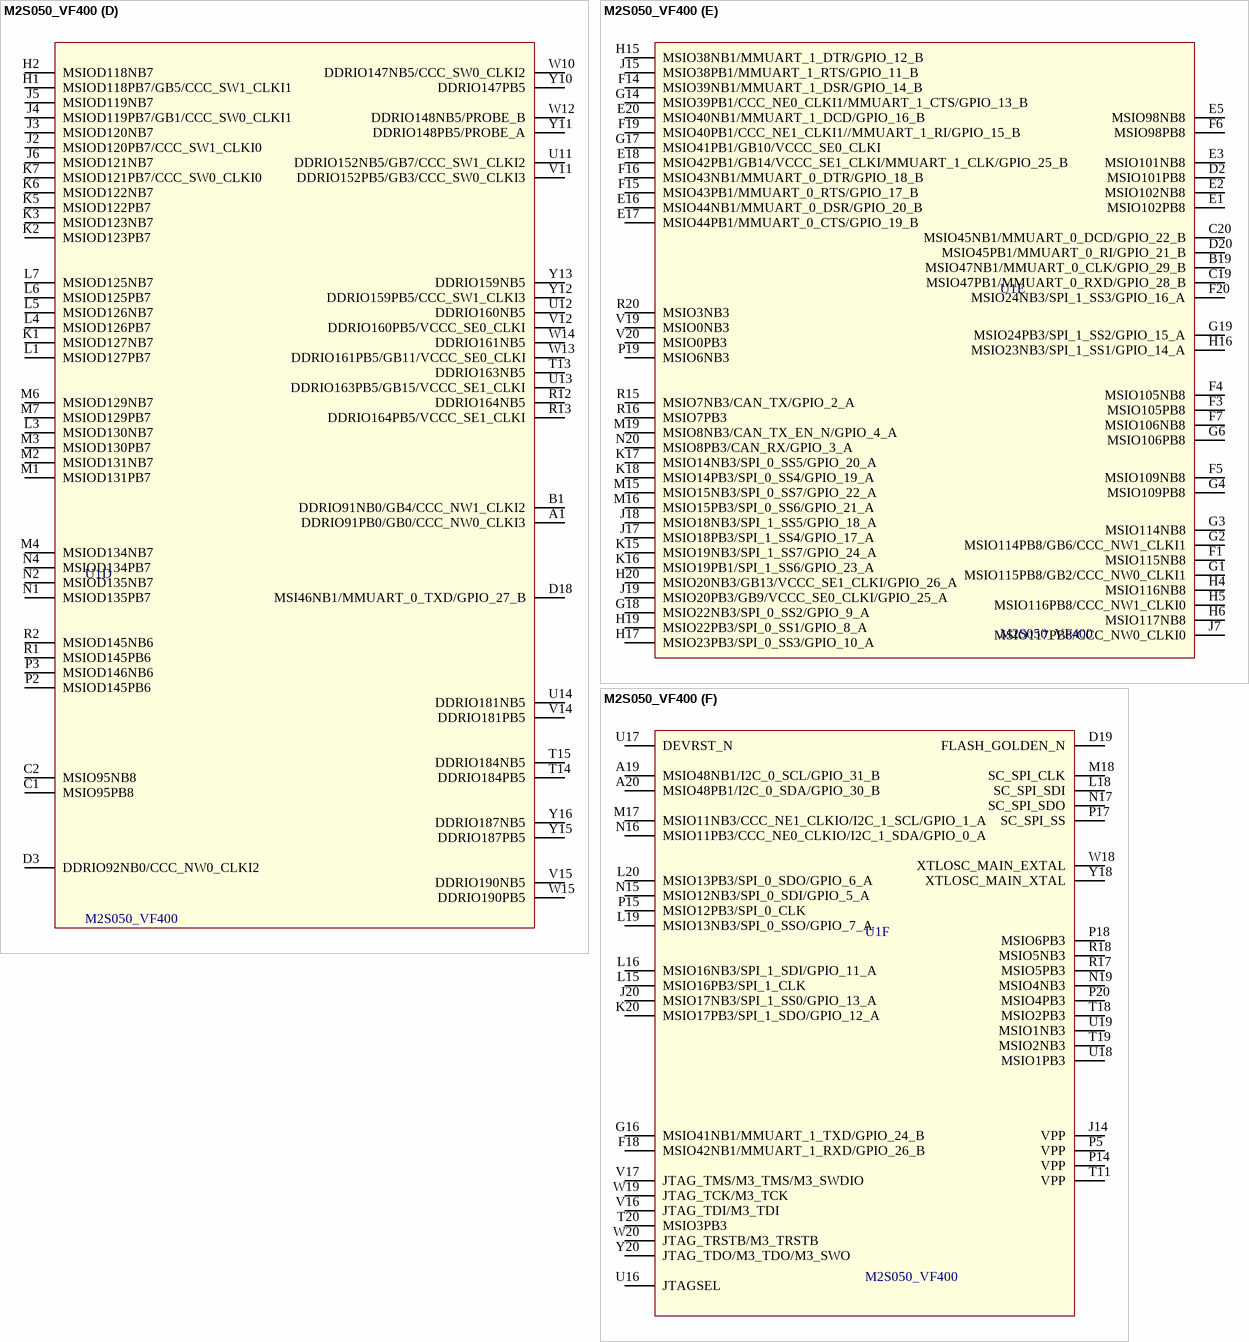
[diagram p5: symbol M2S050_VF400]

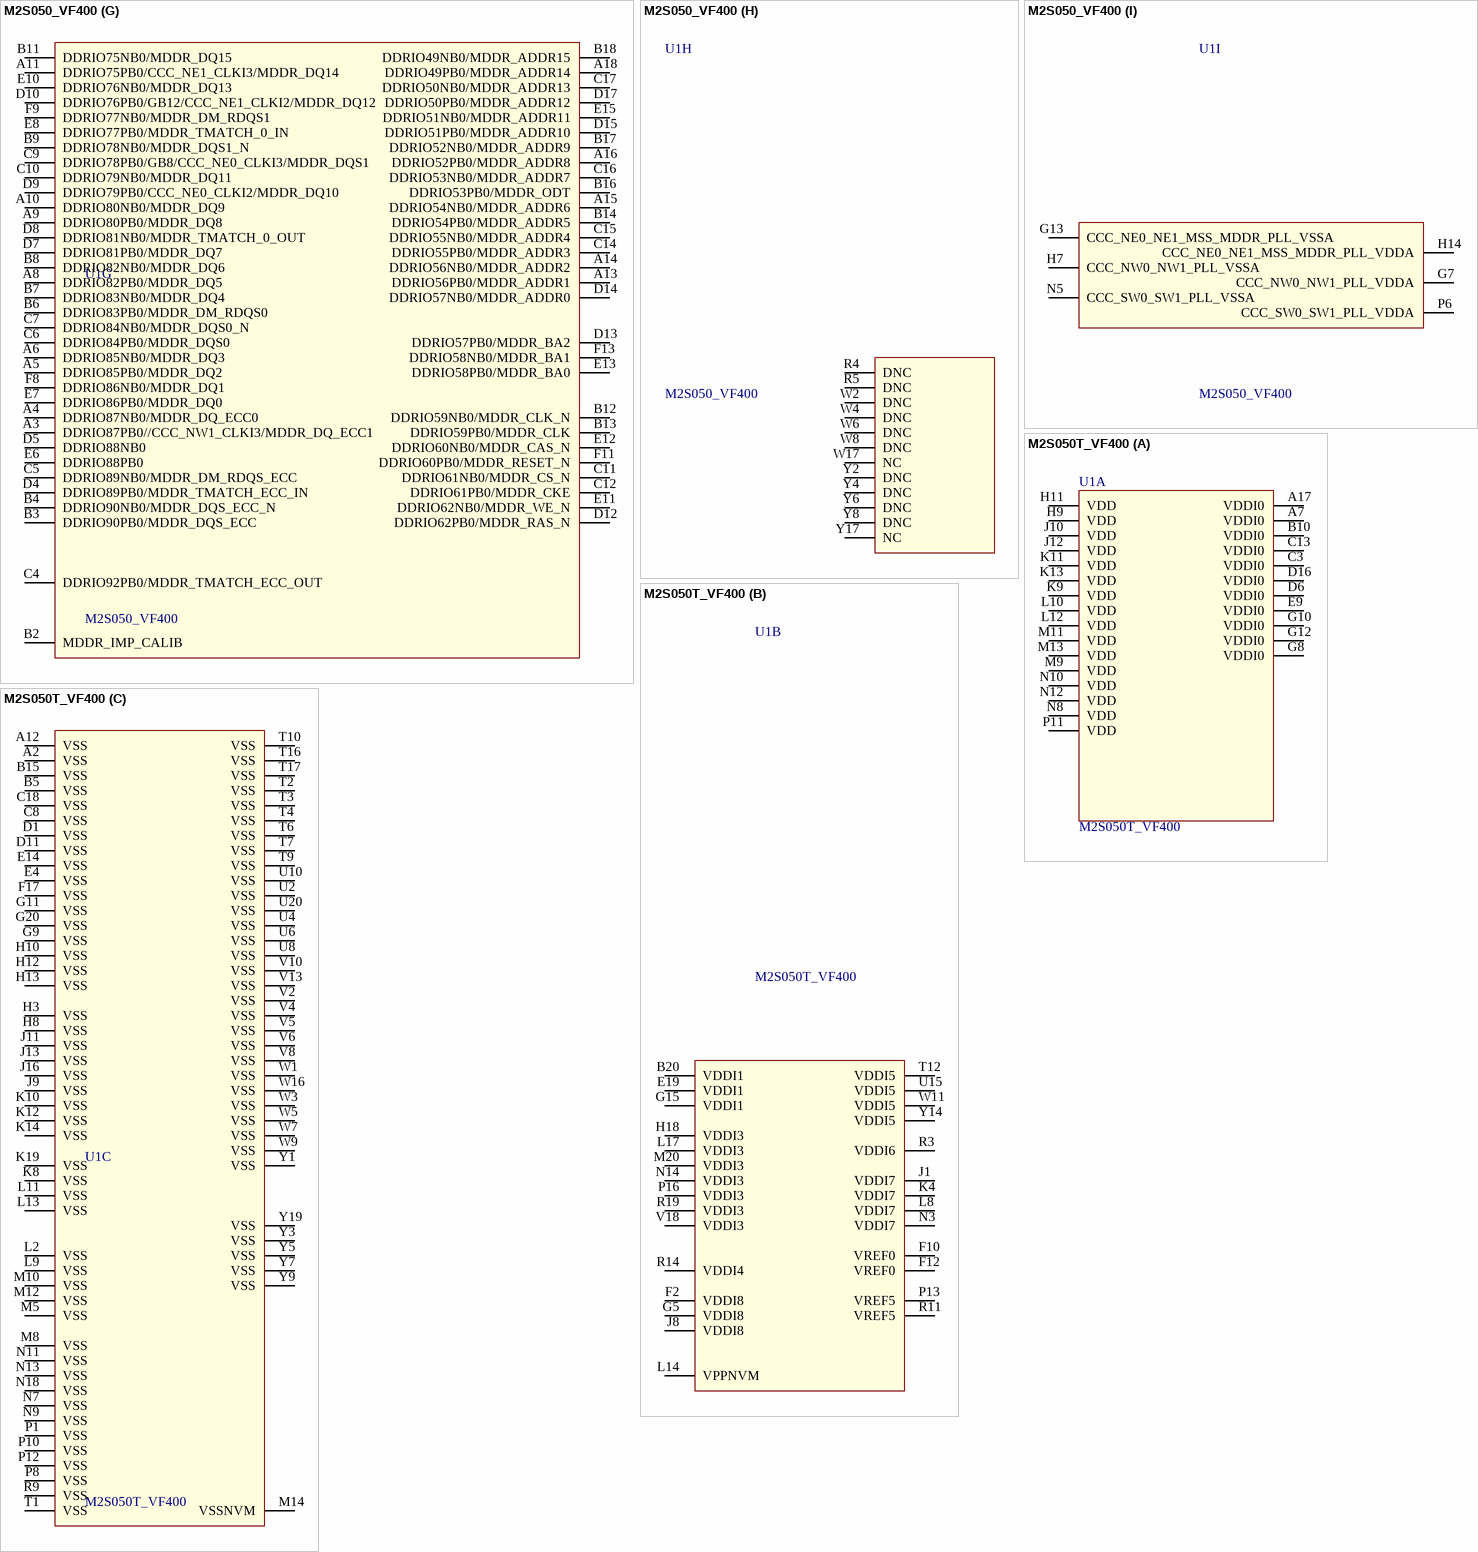
[diagram p6: symbols M2S050_VF400 to M2S050T_VF400]

## M2S050_VF400
designator U1
SmartFusion2; Manufacturer: Microsemi; Manufacturer PN: M2S050-VF(G)400; Supplier: Digikey; Supplier PN: 1100-1227-ND
footprint VF400 (BGA, 400-Leads, Body 17,00x17,00mmx1,41mm, Pitch 0,80mm)
part A pins: A7 VDDI0, A17 VDDI0, B10 VDDI0, C3 VDDI0, C13 VDDI0, D6 VDDI0, D16 VDDI0, E9 VDDI0, G8 VDDI0, G10 VDDI0, G12 VDDI0, H9 VDD, H11 VDD, J10 VDD, J12 VDD, K9 VDD, K11 VDD, K13 VDD, L10 VDD, L12 VDD, M9 VDD, M11 VDD, M13 VDD, N6 VDD, N8 VDD, N10 VDD, N12 VDD, P7 VDD, P9 VDD, P11 VDD, R7 VDD, R8 VDD, R10 VDD, T8 VDD, U5 VDD
part B pins: B20 VDDI1, E19 VDDI1, F2 VDDI8, F10 VREF0, F12 VREF0, G5 VDDI8, G15 VDDI1, H18 VDDI3, J1 VDDI7, J8 VDDI8, K4 VDDI7, L8 VDDI7, L14 VPPNVM, L17 VDDI3, M20 VDDI3, N3 VDDI7, N14 VDDI3, P13 VREF5, P16 VDDI3, R3 VDDI6, R11 VREF5, R14 VDDI4, R19 VDDI3, T12 VDDI5, U15 VDDI5, V18 VDDI3, W11 VDDI5, Y14 VDDI5
part C pins: A2 VSS, A12 VSS, B5 VSS, B15 VSS, C8 VSS, C18 VSS, D1 VSS, D11 VSS, E4 VSS, E14 VSS, F17 VSS, G9 VSS, G11 VSS, G20 VSS, H3 VSS, H8 VSS, H10 VSS, H12 VSS, H13 VSS, J9 VSS, J11 VSS, J13 VSS, J16 VSS, K8 VSS, K10 VSS, K12 VSS, K14 VSS, K19 VSS, L2 VSS, L9 VSS, L11 VSS, L13 VSS, M5 VSS, M8 VSS, M10 VSS, M12 VSS, M14 VSSNVM, N7 VSS, N9 VSS, N11 VSS, N13 VSS, N18 VSS, P1 VSS, P4 VSS, P8 VSS, P10 VSS, P12 VSS, R6 VSS, R9 VSS, T1 VSS, T2 VSS, T3 VSS, T4 VSS, T5 VSS, T6 VSS, T7 VSS, T9 VSS, T10 VSS, T16 VSS, T17 VSS, U1 VSS, U2 VSS, U3 VSS, U4 VSS, U6 VSS, U7 VSS, U8 VSS, U9 VSS, U10 VSS, U20 VSS, V1 VSS, V2 VSS, V3 VSS, V4 VSS, V5 VSS, V6 VSS, V7 VSS, V8 VSS, V9 VSS, V10 VSS, V13 VSS, W1 VSS, W3 VSS, W5 VSS, W7 VSS, W9 VSS, W16 VSS, Y1 VSS, Y3 VSS, Y5 VSS, Y7 VSS, Y9 VSS, Y19 VSS
part D pins: A1 DDRIO91PB0/GB0/CCC_NW0_CLKI3, B1 DDRIO91NB0/GB4/CCC_NW1_CLKI2, C1 MSIO95PB8, C2 MSIO95NB8, D3 DDRIO92NB0/CCC_NW0_CLKI2, D18 MSI46NB1/MMUART_0_TXD/GPIO_27_B, H1 MSIOD118PB7/GB5/CCC_SW1_CLKI1, H2 MSIOD118NB7, J2 MSIOD120PB7/CCC_SW1_CLKI0, J3 MSIOD120NB7, J4 MSIOD119PB7/GB1/CCC_SW0_CLKI1, J5 MSIOD119NB7, J6 MSIOD121NB7, K1 MSIOD127NB7, K2 MSIOD123PB7, K3 MSIOD123NB7, K5 MSIOD122PB7, K6 MSIOD122NB7, K7 MSIOD121PB7/CCC_SW0_CLKI0, L1 MSIOD127PB7, L3 MSIOD130NB7, L4 MSIOD126PB7, L5 MSIOD126NB7, L6 MSIOD125PB7, L7 MSIOD125NB7, M1 MSIOD131PB7, M2 MSIOD131NB7, M3 MSIOD130PB7, M4 MSIOD134NB7, M6 MSIOD129NB7, M7 MSIOD129PB7, N1 MSIOD135PB7, N2 MSIOD135NB7, N4 MSIOD134PB7, P2 MSIOD145PB6, P3 MSIOD146NB6, R1 MSIOD145PB6, R2 MSIOD145NB6, R12 DDRIO164NB5, R13 DDRIO164PB5/VCCC_SE1_CLKI, T13 DDRIO163NB5, T14 DDRIO184PB5, T15 DDRIO184NB5, U11 DDRIO152NB5/GB7/CCC_SW1_CLKI2, U12 DDRIO160NB5, U13 DDRIO163PB5/GB15/VCCC_SE1_CLKI, U14 DDRIO181NB5, V11 DDRIO152PB5/GB3/CCC_SW0_CLKI3, V12 DDRIO160PB5/VCCC_SE0_CLKI, V14 DDRIO181PB5, V15 DDRIO190NB5, W10 DDRIO147NB5/CCC_SW0_CLKI2, W12 DDRIO148NB5/PROBE_B, W13 DDRIO161PB5/GB11/VCCC_SE0_CLKI, W14 DDRIO161NB5, W15 DDRIO190PB5, Y10 DDRIO147PB5, Y11 DDRIO148PB5/PROBE_A, Y12 DDRIO159PB5/CCC_SW1_CLKI3, Y13 DDRIO159NB5, Y15 DDRIO187PB5, Y16 DDRIO187NB5
part E pins: B19 MSIO47NB1/MMUART_0_CLK/GPIO_29_B, C19 MSIO47PB1/MMUART_0_RXD/GPIO_28_B, C20 MSIO45NB1/MMUART_0_DCD/GPIO_22_B, D2 MSIO101PB8, D20 MSIO45PB1/MMUART_0_RI/GPIO_21_B, E1 MSIO102PB8, E2 MSIO102NB8, E3 MSIO101NB8, E5 MSIO98NB8, E16 MSIO44NB1/MMUART_0_DSR/GPIO_20_B, E17 MSIO44PB1/MMUART_0_CTS/GPIO_19_B, E18 MSIO42PB1/GB14/VCCC_SE1_CLKI/MMUART_1_CLK/GPIO_25_B, E20 MSIO40NB1/MMUART_1_DCD/GPIO_16_B, F1 MSIO115NB8, F3 MSIO105PB8, F4 MSIO105NB8, F5 MSIO109NB8, F6 MSIO98PB8, F7 MSIO106NB8, F14 MSIO39NB1/MMUART_1_DSR/GPIO_14_B, F15 MSIO43PB1/MMUART_0_RTS/GPIO_17_B, F16 MSIO43NB1/MMUART_0_DTR/GPIO_18_B, F19 MSIO40PB1/CCC_NE1_CLKI1//MMUART_1_RI/GPIO_15_B, F20 MSIO24NB3/SPI_1_SS3/GPIO_16_A, G1 MSIO115PB8/GB2/CCC_NW0_CLKI1, G2 MSIO114PB8/GB6/CCC_NW1_CLKI1, G3 MSIO114NB8, G4 MSIO109PB8, G6 MSIO106PB8, G14 MSIO39PB1/CCC_NE0_CLKI1/MMUART_1_CTS/GPIO_13_B, G17 MSIO41PB1/GB10/VCCC_SE0_CLKI, G18 MSIO22NB3/SPI_0_SS2/GPIO_9_A, G19 MSIO24PB3/SPI_1_SS2/GPIO_15_A, H4 MSIO116NB8, H5 MSIO116PB8/CCC_NW1_CLKI0, H6 MSIO117NB8, H15 MSIO38NB1/MMUART_1_DTR/GPIO_12_B, H16 MSIO23NB3/SPI_1_SS1/GPIO_14_A, H17 MSIO23PB3/SPI_0_SS3/GPIO_10_A, H19 MSIO22PB3/SPI_0_SS1/GPIO_8_A, H20 MSIO20NB3/GB13/VCCC_SE1_CLKI/GPIO_26_A, J7 MSIO117PB8/CCC_NW0_CLKI0, J15 MSIO38PB1/MMUART_1_RTS/GPIO_11_B, J17 MSIO18PB3/SPI_1_SS4/GPIO_17_A, J18 MSIO18NB3/SPI_1_SS5/GPIO_18_A, J19 MSIO20PB3/GB9/VCCC_SE0_CLKI/GPIO_25_A, K15 MSIO19NB3/SPI_1_SS7/GPIO_24_A, K16 MSIO19PB1/SPI_1_SS6/GPIO_23_A, K17 MSIO14NB3/SPI_0_SS5/GPIO_20_A, K18 MSIO14PB3/SPI_0_SS4/GPIO_19_A, M15 MSIO15NB3/SPI_0_SS7/GPIO_22_A, M16 MSIO15PB3/SPI_0_SS6/GPIO_21_A, M19 MSIO8NB3/CAN_TX_EN_N/GPIO_4_A, N20 MSIO8PB3/CAN_RX/GPIO_3_A, P19 MSIO6NB3, R15 MSIO7NB3/CAN_TX/GPIO_2_A, R16 MSIO7PB3, R20 MSIO3NB3, V19 MSIO0NB3, V20 MSIO0PB3
part F pins: A19 MSIO48NB1/I2C_0_SCL/GPIO_31_B, A20 MSIO48PB1/I2C_0_SDA/GPIO_30_B, D19 FLASH_GOLDEN_N, F18 MSIO42NB1/MMUART_1_RXD/GPIO_26_B, G16 MSIO41NB1/MMUART_1_TXD/GPIO_24_B, J14 VPP, J20 MSIO17NB3/SPI_1_SS0/GPIO_13_A, K20 MSIO17PB3/SPI_1_SDO/GPIO_12_A, L15 MSIO16PB3/SPI_1_CLK, L16 MSIO16NB3/SPI_1_SDI/GPIO_11_A, L18 SC_SPI_SDI, L19 MSIO13NB3/SPI_0_SSO/GPIO_7_A, L20 MSIO13PB3/SPI_0_SDO/GPIO_6_A, M17 MSIO11NB3/CCC_NE1_CLKIO/I2C_1_SCL/GPIO_1_A, M18 SC_SPI_CLK, N15 MSIO12NB3/SPI_0_SDI/GPIO_5_A, N16 MSIO11PB3/CCC_NE0_CLKIO/I2C_1_SDA/GPIO_0_A, N17 SC_SPI_SDO, N19 MSIO4NB3, P5 VPP, P14 VPP, P15 MSIO12PB3/SPI_0_CLK, P17 SC_SPI_SS, P18 MSIO6PB3, P20 MSIO4PB3, R17 MSIO5PB3, R18 MSIO5NB3, T11 VPP, T18 MSIO2PB3, T19 MSIO2NB3, T20 MSIO3PB3, U16 JTAGSEL, U17 DEVRST_N, U18 MSIO1PB3, U19 MSIO1NB3, V16 JTAG_TDI/M3_TDI, V17 JTAG_TMS/M3_TMS/M3_SWDIO, W18 XTLOSC_MAIN_EXTAL, W19 JTAG_TCK/M3_TCK, W20 JTAG_TRSTB/M3_TRSTB, Y18 XTLOSC_MAIN_XTAL, Y20 JTAG_TDO/M3_TDO/M3_SWO
part G pins: A3 DDRIO87PB0//CCC_NW1_CLKI3/MDDR_DQ_ECC1, A4 DDRIO87NB0/MDDR_DQ_ECC0, A5 DDRIO85PB0/MDDR_DQ2, A6 DDRIO85NB0/MDDR_DQ3, A8 DDRIO82PB0/MDDR_DQ5, A9 DDRIO80PB0/MDDR_DQ8, A10 DDRIO80NB0/MDDR_DQ9, A11 DDRIO75PB0/CCC_NE1_CLKI3/MDDR_DQ14, A13 DDRIO56PB0/MDDR_ADDR1, A14 DDRIO56NB0/MDDR_ADDR2, A15 DDRIO54NB0/MDDR_ADDR6, A16 DDRIO52PB0/MDDR_ADDR8, A18 DDRIO49PB0/MDDR_ADDR14, B2 MDDR_IMP_CALIB, B3 DDRIO90PB0/MDDR_DQS_ECC, B4 DDRIO90NB0/MDDR_DQS_ECC_N, B6 DDRIO83PB0/MDDR_DM_RDQS0, B7 DDRIO83NB0/MDDR_DQ4, B8 DDRIO82NB0/MDDR_DQ6, B9 DDRIO78NB0/MDDR_DQS1_N, B11 DDRIO75NB0/MDDR_DQ15, B12 DDRIO59NB0/MDDR_CLK_N, B13 DDRIO59PB0/MDDR_CLK, B14 DDRIO54PB0/MDDR_ADDR5, B16 DDRIO53PB0/MDDR_ODT, B17 DDRIO52NB0/MDDR_ADDR9, B18 DDRIO49NB0/MDDR_ADDR15, C4 DDRIO92PB0/MDDR_TMATCH_ECC_OUT, C5 DDRIO89NB0/MDDR_DM_RDQS_ECC, C6 DDRIO84PB0/MDDR_DQS0, C7 DDRIO84NB0/MDDR_DQS0_N, C9 DDRIO78PB0/GB8/CCC_NE0_CLKI3/MDDR_DQS1, C10 DDRIO79NB0/MDDR_DQ11, C11 DDRIO61NB0/MDDR_CS_N, C12 DDRIO61PB0/MDDR_CKE, C14 DDRIO55PB0/MDDR_ADDR3, C15 DDRIO55NB0/MDDR_ADDR4, C16 DDRIO53NB0/MDDR_ADDR7, C17 DDRIO50NB0/MDDR_ADDR13, D4 DDRIO89PB0/MDDR_TMATCH_ECC_IN, D5 DDRIO88NB0, D7 DDRIO81PB0/MDDR_DQ7, D8 DDRIO81NB0/MDDR_TMATCH_0_OUT, D9 DDRIO79PB0/CCC_NE0_CLKI2/MDDR_DQ10, D10 DDRIO76PB0/GB12/CCC_NE1_CLKI2/MDDR_DQ12, D12 DDRIO62PB0/MDDR_RAS_N, D13 DDRIO57PB0/MDDR_BA2, D14 DDRIO57NB0/MDDR_ADDR0, D15 DDRIO51PB0/MDDR_ADDR10, D17 DDRIO50PB0/MDDR_ADDR12, E6 DDRIO88PB0, E7 DDRIO86PB0/MDDR_DQ0, E8 DDRIO77PB0/MDDR_TMATCH_0_IN, E10 DDRIO76NB0/MDDR_DQ13, E11 DDRIO62NB0/MDDR_WE_N, E12 DDRIO60NB0/MDDR_CAS_N, E13 DDRIO58PB0/MDDR_BA0, E15 DDRIO51NB0/MDDR_ADDR11, F8 DDRIO86NB0/MDDR_DQ1, F9 DDRIO77NB0/MDDR_DM_RDQS1, F11 DDRIO60PB0/MDDR_RESET_N, F13 DDRIO58NB0/MDDR_BA1
part H pins: R4 DNC, R5 DNC, W2 DNC, W4 DNC, W6 DNC, W8 DNC, W17 NC, Y2 DNC, Y4 DNC, Y6 DNC, Y8 DNC, Y17 NC
part I pins: G7 CCC_NW0_NW1_PLL_VDDA, G13 CCC_NE0_NE1_MSS_MDDR_PLL_VSSA, H7 CCC_NW0_NW1_PLL_VSSA, H14 CCC_NE0_NE1_MSS_MDDR_PLL_VDDA, N5 CCC_SW0_SW1_PLL_VSSA, P6 CCC_SW0_SW1_PLL_VDDA

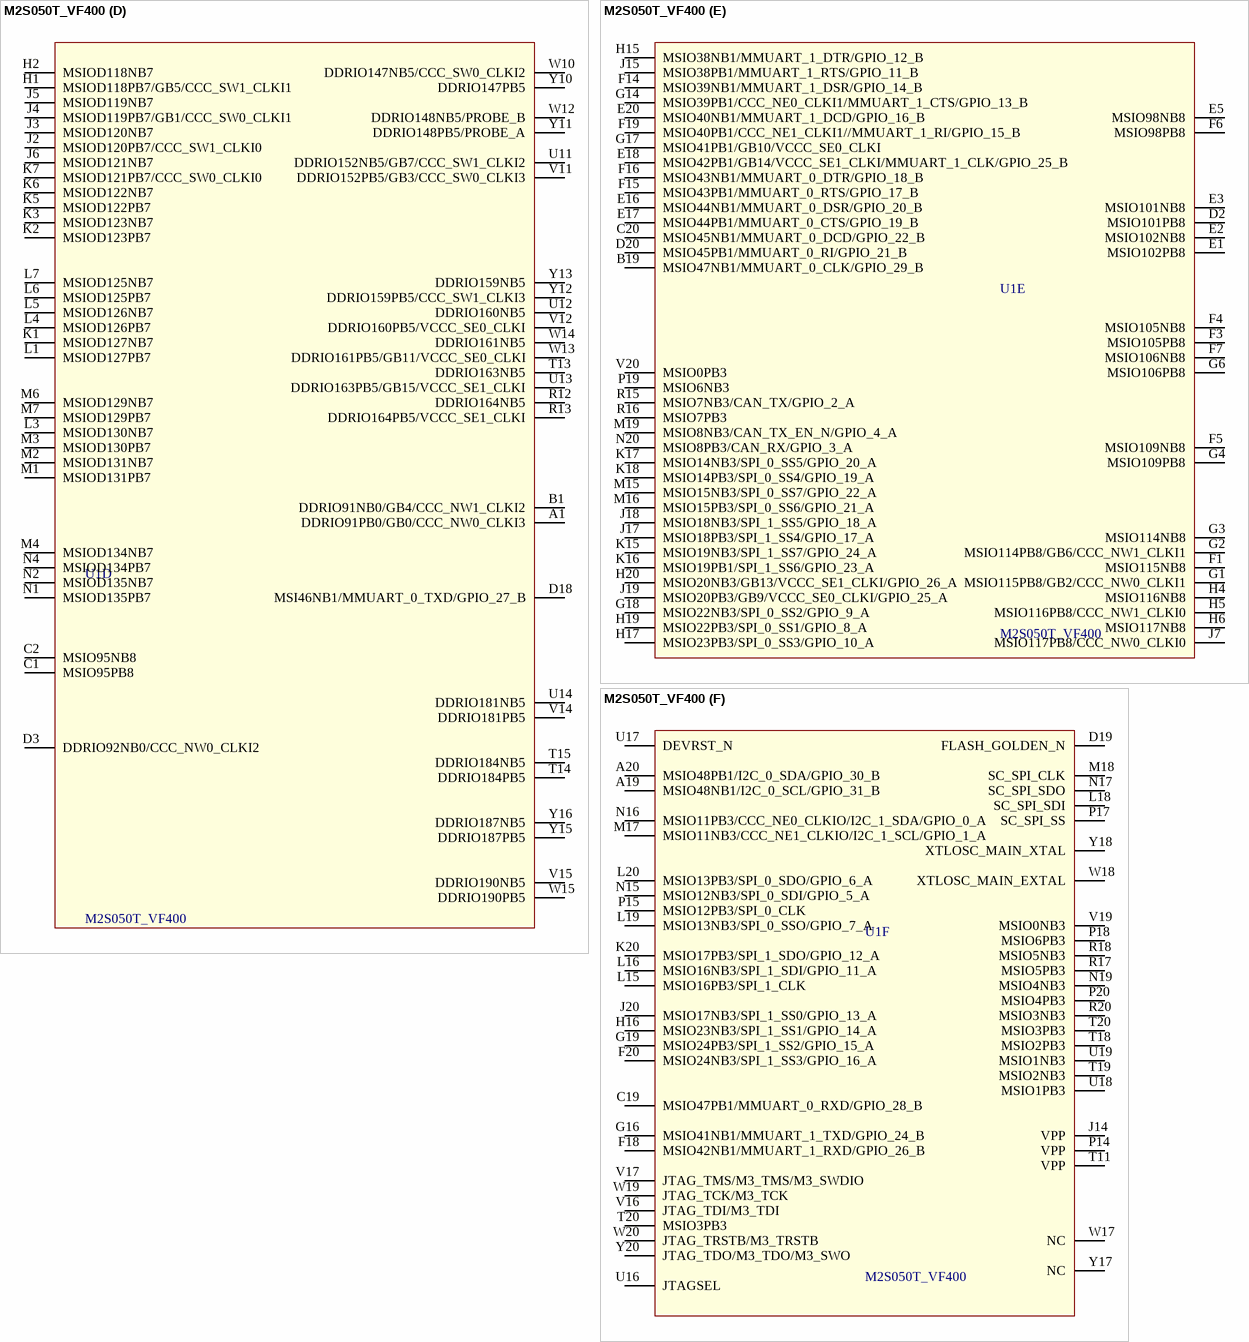
[diagram p7: symbol M2S050T_VF400]

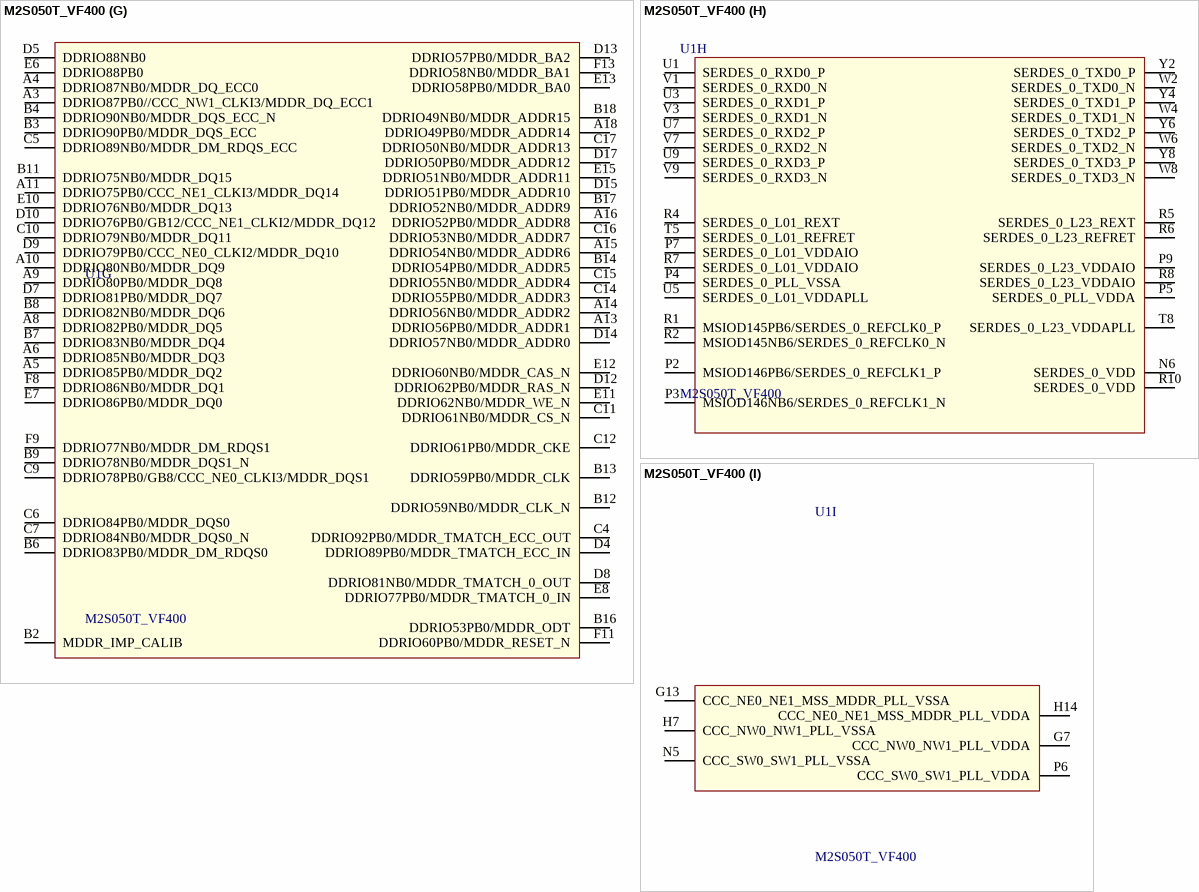
[diagram p8: symbol M2S050T_VF400]

## M2S050T_VF400
designator U1
SmartFusion2
footprint VF400 (BGA, 400-Leads, Body 17,00x17,00mmx1,41mm, Pitch 0,80mm)
part A pins: A7 VDDI0, A17 VDDI0, B10 VDDI0, C3 VDDI0, C13 VDDI0, D6 VDDI0, D16 VDDI0, E9 VDDI0, G8 VDDI0, G10 VDDI0, G12 VDDI0, H9 VDD, H11 VDD, J10 VDD, J12 VDD, K9 VDD, K11 VDD, K13 VDD, L10 VDD, L12 VDD, M9 VDD, M11 VDD, M13 VDD, N8 VDD, N10 VDD, N12 VDD, P11 VDD
part B pins: B20 VDDI1, E19 VDDI1, F2 VDDI8, F10 VREF0, F12 VREF0, G5 VDDI8, G15 VDDI1, H18 VDDI3, J1 VDDI7, J8 VDDI8, K4 VDDI7, L8 VDDI7, L14 VPPNVM, L17 VDDI3, M20 VDDI3, N3 VDDI7, N14 VDDI3, P13 VREF5, P16 VDDI3, R3 VDDI6, R11 VREF5, R14 VDDI4, R19 VDDI3, T12 VDDI5, U15 VDDI5, V18 VDDI3, W11 VDDI5, Y14 VDDI5
part C pins: A2 VSS, A12 VSS, B5 VSS, B15 VSS, C8 VSS, C18 VSS, D1 VSS, D11 VSS, E4 VSS, E14 VSS, F17 VSS, G9 VSS, G11 VSS, G20 VSS, H3 VSS, H8 VSS, H10 VSS, H12 VSS, H13 VSS, J9 VSS, J11 VSS, J13 VSS, J16 VSS, K8 VSS, K10 VSS, K12 VSS, K14 VSS, K19 VSS, L2 VSS, L9 VSS, L11 VSS, L13 VSS, M5 VSS, M8 VSS, M10 VSS, M12 VSS, M14 VSSNVM, N7 VSS, N9 VSS, N11 VSS, N13 VSS, N18 VSS, P1 VSS, P8 VSS, P10 VSS, P12 VSS, R9 VSS, T1 VSS, T2 VSS, T3 VSS, T4 VSS, T6 VSS, T7 VSS, T9 VSS, T10 VSS, T16 VSS, T17 VSS, U2 VSS, U4 VSS, U6 VSS, U8 VSS, U10 VSS, U20 VSS, V2 VSS, V4 VSS, V5 VSS, V6 VSS, V8 VSS, V10 VSS, V13 VSS, W1 VSS, W3 VSS, W5 VSS, W7 VSS, W9 VSS, W16 VSS, Y1 VSS, Y3 VSS, Y5 VSS, Y7 VSS, Y9 VSS, Y19 VSS
part D pins: A1 DDRIO91PB0/GB0/CCC_NW0_CLKI3, B1 DDRIO91NB0/GB4/CCC_NW1_CLKI2, C1 MSIO95PB8, C2 MSIO95NB8, D3 DDRIO92NB0/CCC_NW0_CLKI2, D18 MSI46NB1/MMUART_0_TXD/GPIO_27_B, H1 MSIOD118PB7/GB5/CCC_SW1_CLKI1, H2 MSIOD118NB7, J2 MSIOD120PB7/CCC_SW1_CLKI0, J3 MSIOD120NB7, J4 MSIOD119PB7/GB1/CCC_SW0_CLKI1, J5 MSIOD119NB7, J6 MSIOD121NB7, K1 MSIOD127NB7, K2 MSIOD123PB7, K3 MSIOD123NB7, K5 MSIOD122PB7, K6 MSIOD122NB7, K7 MSIOD121PB7/CCC_SW0_CLKI0, L1 MSIOD127PB7, L3 MSIOD130NB7, L4 MSIOD126PB7, L5 MSIOD126NB7, L6 MSIOD125PB7, L7 MSIOD125NB7, M1 MSIOD131PB7, M2 MSIOD131NB7, M3 MSIOD130PB7, M4 MSIOD134NB7, M6 MSIOD129NB7, M7 MSIOD129PB7, N1 MSIOD135PB7, N2 MSIOD135NB7, N4 MSIOD134PB7, R12 DDRIO164NB5, R13 DDRIO164PB5/VCCC_SE1_CLKI, T13 DDRIO163NB5, T14 DDRIO184PB5, T15 DDRIO184NB5, U11 DDRIO152NB5/GB7/CCC_SW1_CLKI2, U12 DDRIO160NB5, U13 DDRIO163PB5/GB15/VCCC_SE1_CLKI, U14 DDRIO181NB5, V11 DDRIO152PB5/GB3/CCC_SW0_CLKI3, V12 DDRIO160PB5/VCCC_SE0_CLKI, V14 DDRIO181PB5, V15 DDRIO190NB5, W10 DDRIO147NB5/CCC_SW0_CLKI2, W12 DDRIO148NB5/PROBE_B, W13 DDRIO161PB5/GB11/VCCC_SE0_CLKI, W14 DDRIO161NB5, W15 DDRIO190PB5, Y10 DDRIO147PB5, Y11 DDRIO148PB5/PROBE_A, Y12 DDRIO159PB5/CCC_SW1_CLKI3, Y13 DDRIO159NB5, Y15 DDRIO187PB5, Y16 DDRIO187NB5
part E pins: B19 MSIO47NB1/MMUART_0_CLK/GPIO_29_B, C20 MSIO45NB1/MMUART_0_DCD/GPIO_22_B, D2 MSIO101PB8, D20 MSIO45PB1/MMUART_0_RI/GPIO_21_B, E1 MSIO102PB8, E2 MSIO102NB8, E3 MSIO101NB8, E5 MSIO98NB8, E16 MSIO44NB1/MMUART_0_DSR/GPIO_20_B, E17 MSIO44PB1/MMUART_0_CTS/GPIO_19_B, E18 MSIO42PB1/GB14/VCCC_SE1_CLKI/MMUART_1_CLK/GPIO_25_B, E20 MSIO40NB1/MMUART_1_DCD/GPIO_16_B, F1 MSIO115NB8, F3 MSIO105PB8, F4 MSIO105NB8, F5 MSIO109NB8, F6 MSIO98PB8, F7 MSIO106NB8, F14 MSIO39NB1/MMUART_1_DSR/GPIO_14_B, F15 MSIO43PB1/MMUART_0_RTS/GPIO_17_B, F16 MSIO43NB1/MMUART_0_DTR/GPIO_18_B, F19 MSIO40PB1/CCC_NE1_CLKI1//MMUART_1_RI/GPIO_15_B, G1 MSIO115PB8/GB2/CCC_NW0_CLKI1, G2 MSIO114PB8/GB6/CCC_NW1_CLKI1, G3 MSIO114NB8, G4 MSIO109PB8, G6 MSIO106PB8, G14 MSIO39PB1/CCC_NE0_CLKI1/MMUART_1_CTS/GPIO_13_B, G17 MSIO41PB1/GB10/VCCC_SE0_CLKI, G18 MSIO22NB3/SPI_0_SS2/GPIO_9_A, H4 MSIO116NB8, H5 MSIO116PB8/CCC_NW1_CLKI0, H6 MSIO117NB8, H15 MSIO38NB1/MMUART_1_DTR/GPIO_12_B, H17 MSIO23PB3/SPI_0_SS3/GPIO_10_A, H19 MSIO22PB3/SPI_0_SS1/GPIO_8_A, H20 MSIO20NB3/GB13/VCCC_SE1_CLKI/GPIO_26_A, J7 MSIO117PB8/CCC_NW0_CLKI0, J15 MSIO38PB1/MMUART_1_RTS/GPIO_11_B, J17 MSIO18PB3/SPI_1_SS4/GPIO_17_A, J18 MSIO18NB3/SPI_1_SS5/GPIO_18_A, J19 MSIO20PB3/GB9/VCCC_SE0_CLKI/GPIO_25_A, K15 MSIO19NB3/SPI_1_SS7/GPIO_24_A, K16 MSIO19PB1/SPI_1_SS6/GPIO_23_A, K17 MSIO14NB3/SPI_0_SS5/GPIO_20_A, K18 MSIO14PB3/SPI_0_SS4/GPIO_19_A, M15 MSIO15NB3/SPI_0_SS7/GPIO_22_A, M16 MSIO15PB3/SPI_0_SS6/GPIO_21_A, M19 MSIO8NB3/CAN_TX_EN_N/GPIO_4_A, N20 MSIO8PB3/CAN_RX/GPIO_3_A, P19 MSIO6NB3, R15 MSIO7NB3/CAN_TX/GPIO_2_A, R16 MSIO7PB3, V20 MSIO0PB3
part F pins: A19 MSIO48NB1/I2C_0_SCL/GPIO_31_B, A20 MSIO48PB1/I2C_0_SDA/GPIO_30_B, C19 MSIO47PB1/MMUART_0_RXD/GPIO_28_B, D19 FLASH_GOLDEN_N, F18 MSIO42NB1/MMUART_1_RXD/GPIO_26_B, F20 MSIO24NB3/SPI_1_SS3/GPIO_16_A, G16 MSIO41NB1/MMUART_1_TXD/GPIO_24_B, G19 MSIO24PB3/SPI_1_SS2/GPIO_15_A, H16 MSIO23NB3/SPI_1_SS1/GPIO_14_A, J14 VPP, J20 MSIO17NB3/SPI_1_SS0/GPIO_13_A, K20 MSIO17PB3/SPI_1_SDO/GPIO_12_A, L15 MSIO16PB3/SPI_1_CLK, L16 MSIO16NB3/SPI_1_SDI/GPIO_11_A, L18 SC_SPI_SDI, L19 MSIO13NB3/SPI_0_SSO/GPIO_7_A, L20 MSIO13PB3/SPI_0_SDO/GPIO_6_A, M17 MSIO11NB3/CCC_NE1_CLKIO/I2C_1_SCL/GPIO_1_A, M18 SC_SPI_CLK, N15 MSIO12NB3/SPI_0_SDI/GPIO_5_A, N16 MSIO11PB3/CCC_NE0_CLKIO/I2C_1_SDA/GPIO_0_A, N17 SC_SPI_SDO, N19 MSIO4NB3, P14 VPP, P15 MSIO12PB3/SPI_0_CLK, P17 SC_SPI_SS, P18 MSIO6PB3, P20 MSIO4PB3, R17 MSIO5PB3, R18 MSIO5NB3, R20 MSIO3NB3, T11 VPP, T18 MSIO2PB3, T19 MSIO2NB3, T20 MSIO3PB3, T20 MSIO3PB3, U16 JTAGSEL, U17 DEVRST_N, U18 MSIO1PB3, U19 MSIO1NB3, V16 JTAG_TDI/M3_TDI, V17 JTAG_TMS/M3_TMS/M3_SWDIO, V19 MSIO0NB3, W17 NC, W18 XTLOSC_MAIN_EXTAL, W19 JTAG_TCK/M3_TCK, W20 JTAG_TRSTB/M3_TRSTB, Y17 NC, Y18 XTLOSC_MAIN_XTAL, Y20 JTAG_TDO/M3_TDO/M3_SWO
part G pins: A3 DDRIO87PB0//CCC_NW1_CLKI3/MDDR_DQ_ECC1, A4 DDRIO87NB0/MDDR_DQ_ECC0, A5 DDRIO85PB0/MDDR_DQ2, A6 DDRIO85NB0/MDDR_DQ3, A8 DDRIO82PB0/MDDR_DQ5, A9 DDRIO80PB0/MDDR_DQ8, A10 DDRIO80NB0/MDDR_DQ9, A11 DDRIO75PB0/CCC_NE1_CLKI3/MDDR_DQ14, A13 DDRIO56PB0/MDDR_ADDR1, A14 DDRIO56NB0/MDDR_ADDR2, A15 DDRIO54NB0/MDDR_ADDR6, A16 DDRIO52PB0/MDDR_ADDR8, A18 DDRIO49PB0/MDDR_ADDR14, B2 MDDR_IMP_CALIB, B3 DDRIO90PB0/MDDR_DQS_ECC, B4 DDRIO90NB0/MDDR_DQS_ECC_N, B6 DDRIO83PB0/MDDR_DM_RDQS0, B7 DDRIO83NB0/MDDR_DQ4, B8 DDRIO82NB0/MDDR_DQ6, B9 DDRIO78NB0/MDDR_DQS1_N, B11 DDRIO75NB0/MDDR_DQ15, B12 DDRIO59NB0/MDDR_CLK_N, B13 DDRIO59PB0/MDDR_CLK, B14 DDRIO54PB0/MDDR_ADDR5, B16 DDRIO53PB0/MDDR_ODT, B17 DDRIO52NB0/MDDR_ADDR9, B18 DDRIO49NB0/MDDR_ADDR15, C4 DDRIO92PB0/MDDR_TMATCH_ECC_OUT, C5 DDRIO89NB0/MDDR_DM_RDQS_ECC, C6 DDRIO84PB0/MDDR_DQS0, C7 DDRIO84NB0/MDDR_DQS0_N, C9 DDRIO78PB0/GB8/CCC_NE0_CLKI3/MDDR_DQS1, C10 DDRIO79NB0/MDDR_DQ11, C11 DDRIO61NB0/MDDR_CS_N, C12 DDRIO61PB0/MDDR_CKE, C14 DDRIO55PB0/MDDR_ADDR3, C15 DDRIO55NB0/MDDR_ADDR4, C16 DDRIO53NB0/MDDR_ADDR7, C17 DDRIO50NB0/MDDR_ADDR13, D4 DDRIO89PB0/MDDR_TMATCH_ECC_IN, D5 DDRIO88NB0, D7 DDRIO81PB0/MDDR_DQ7, D8 DDRIO81NB0/MDDR_TMATCH_0_OUT, D9 DDRIO79PB0/CCC_NE0_CLKI2/MDDR_DQ10, D10 DDRIO76PB0/GB12/CCC_NE1_CLKI2/MDDR_DQ12, D12 DDRIO62PB0/MDDR_RAS_N, D13 DDRIO57PB0/MDDR_BA2, D14 DDRIO57NB0/MDDR_ADDR0, D15 DDRIO51PB0/MDDR_ADDR10, D17 DDRIO50PB0/MDDR_ADDR12, E6 DDRIO88PB0, E7 DDRIO86PB0/MDDR_DQ0, E8 DDRIO77PB0/MDDR_TMATCH_0_IN, E10 DDRIO76NB0/MDDR_DQ13, E11 DDRIO62NB0/MDDR_WE_N, E12 DDRIO60NB0/MDDR_CAS_N, E13 DDRIO58PB0/MDDR_BA0, E15 DDRIO51NB0/MDDR_ADDR11, F8 DDRIO86NB0/MDDR_DQ1, F9 DDRIO77NB0/MDDR_DM_RDQS1, F11 DDRIO60PB0/MDDR_RESET_N, F13 DDRIO58NB0/MDDR_BA1
part H pins: N6 SERDES_0_VDD, P2 MSIOD146PB6/SERDES_0_REFCLK1_P, P3 MSIOD146NB6/SERDES_0_REFCLK1_N, P4 SERDES_0_PLL_VSSA, P5 SERDES_0_PLL_VDDA, P7 SERDES_0_L01_VDDAIO, P9 SERDES_0_L23_VDDAIO, R1 MSIOD145PB6/SERDES_0_REFCLK0_P, R2 MSIOD145NB6/SERDES_0_REFCLK0_N, R4 SERDES_0_L01_REXT, R5 SERDES_0_L23_REXT, R6 SERDES_0_L23_REFRET, R7 SERDES_0_L01_VDDAIO, R8 SERDES_0_L23_VDDAIO, R10 SERDES_0_VDD, T5 SERDES_0_L01_REFRET, T8 SERDES_0_L23_VDDAPLL, U1 SERDES_0_RXD0_P, U3 SERDES_0_RXD1_P, U5 SERDES_0_L01_VDDAPLL, U7 SERDES_0_RXD2_P, U9 SERDES_0_RXD3_P, V1 SERDES_0_RXD0_N, V3 SERDES_0_RXD1_N, V7 SERDES_0_RXD2_N, V9 SERDES_0_RXD3_N, W2 SERDES_0_TXD0_N, W4 SERDES_0_TXD1_N, W6 SERDES_0_TXD2_N, W8 SERDES_0_TXD3_N, Y2 SERDES_0_TXD0_P, Y4 SERDES_0_TXD1_P, Y6 SERDES_0_TXD2_P, Y8 SERDES_0_TXD3_P
part I pins: G7 CCC_NW0_NW1_PLL_VDDA, G13 CCC_NE0_NE1_MSS_MDDR_PLL_VSSA, H7 CCC_NW0_NW1_PLL_VSSA, H14 CCC_NE0_NE1_MSS_MDDR_PLL_VDDA, N5 CCC_SW0_SW1_PLL_VSSA, P6 CCC_SW0_SW1_PLL_VDDA

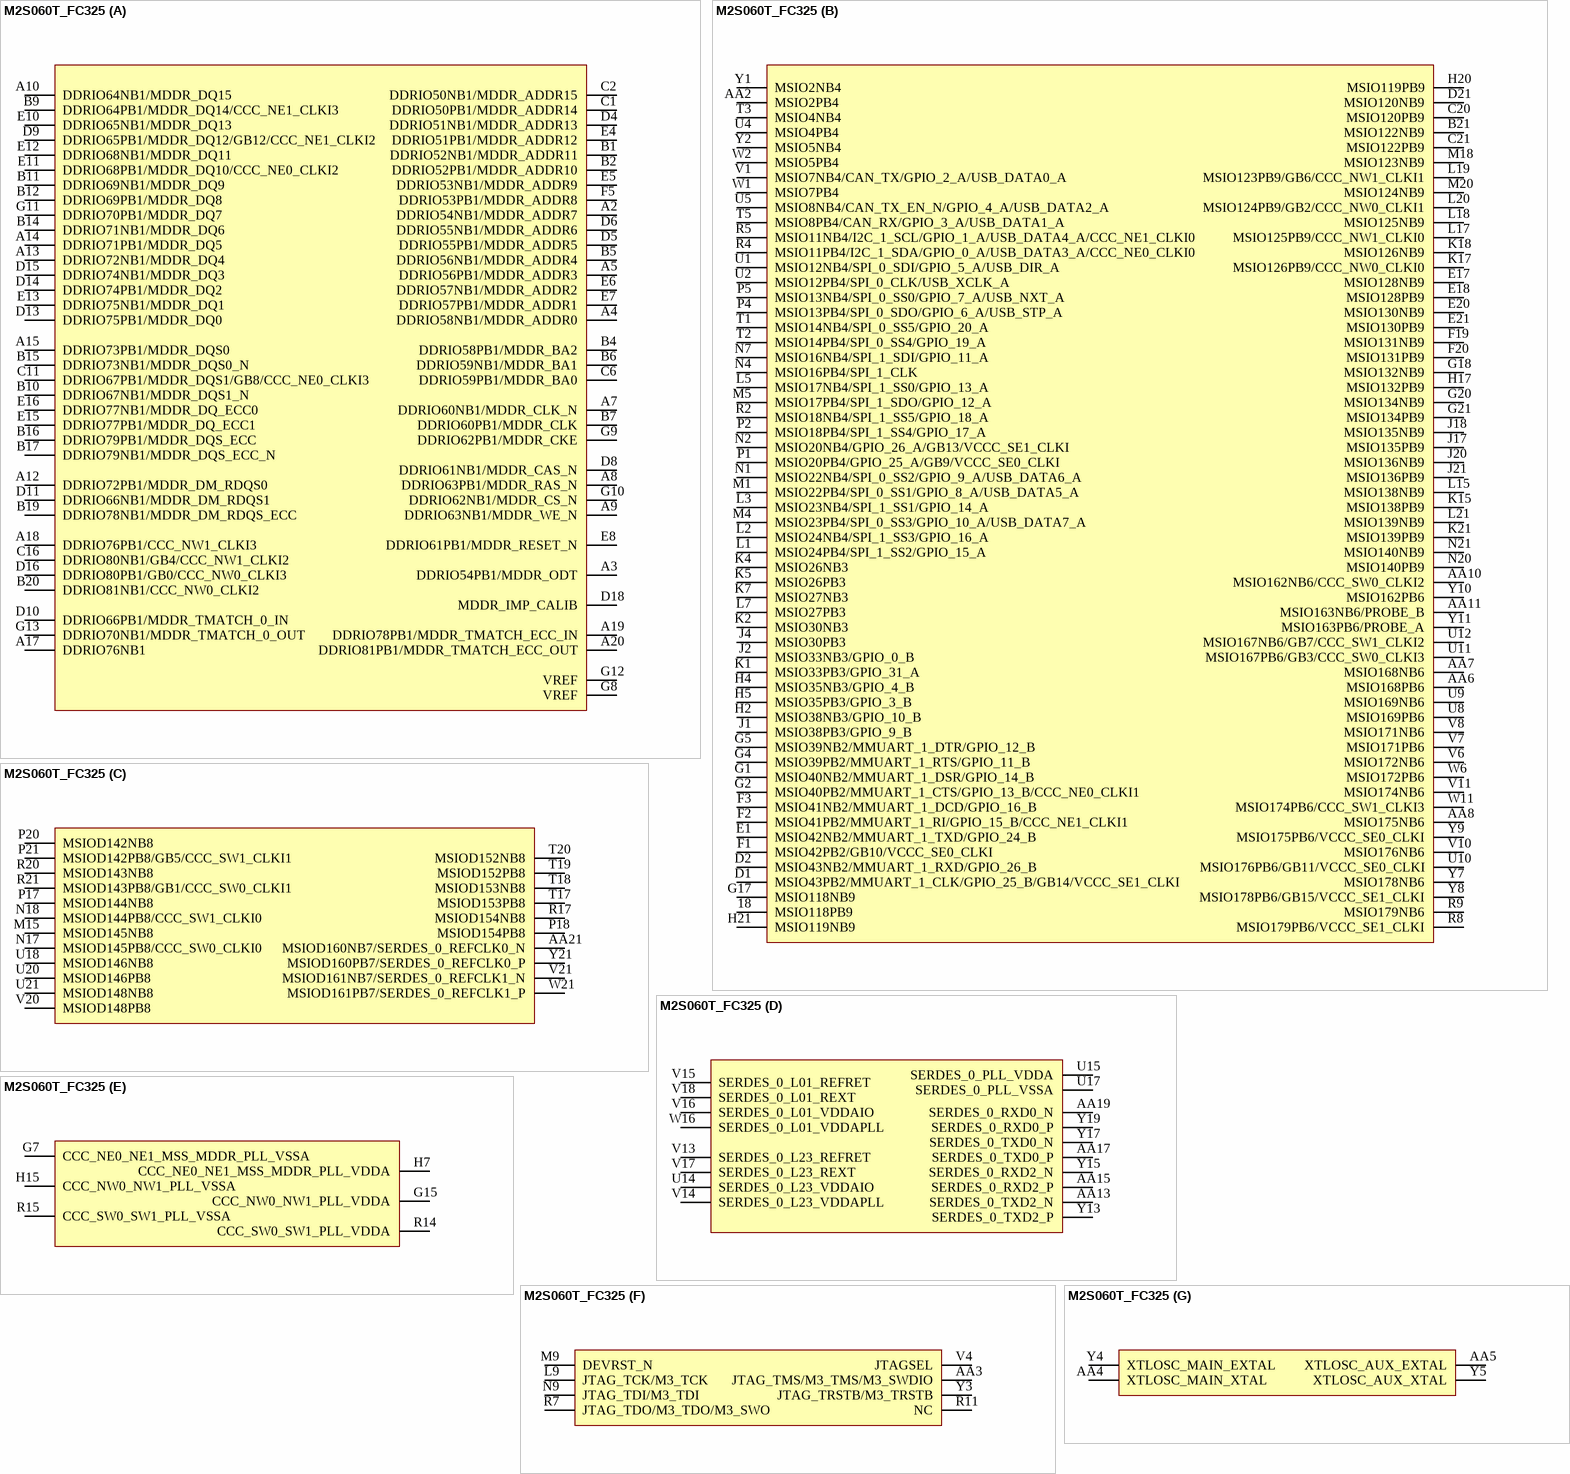
[diagram p9: symbol M2S060T_FC325]

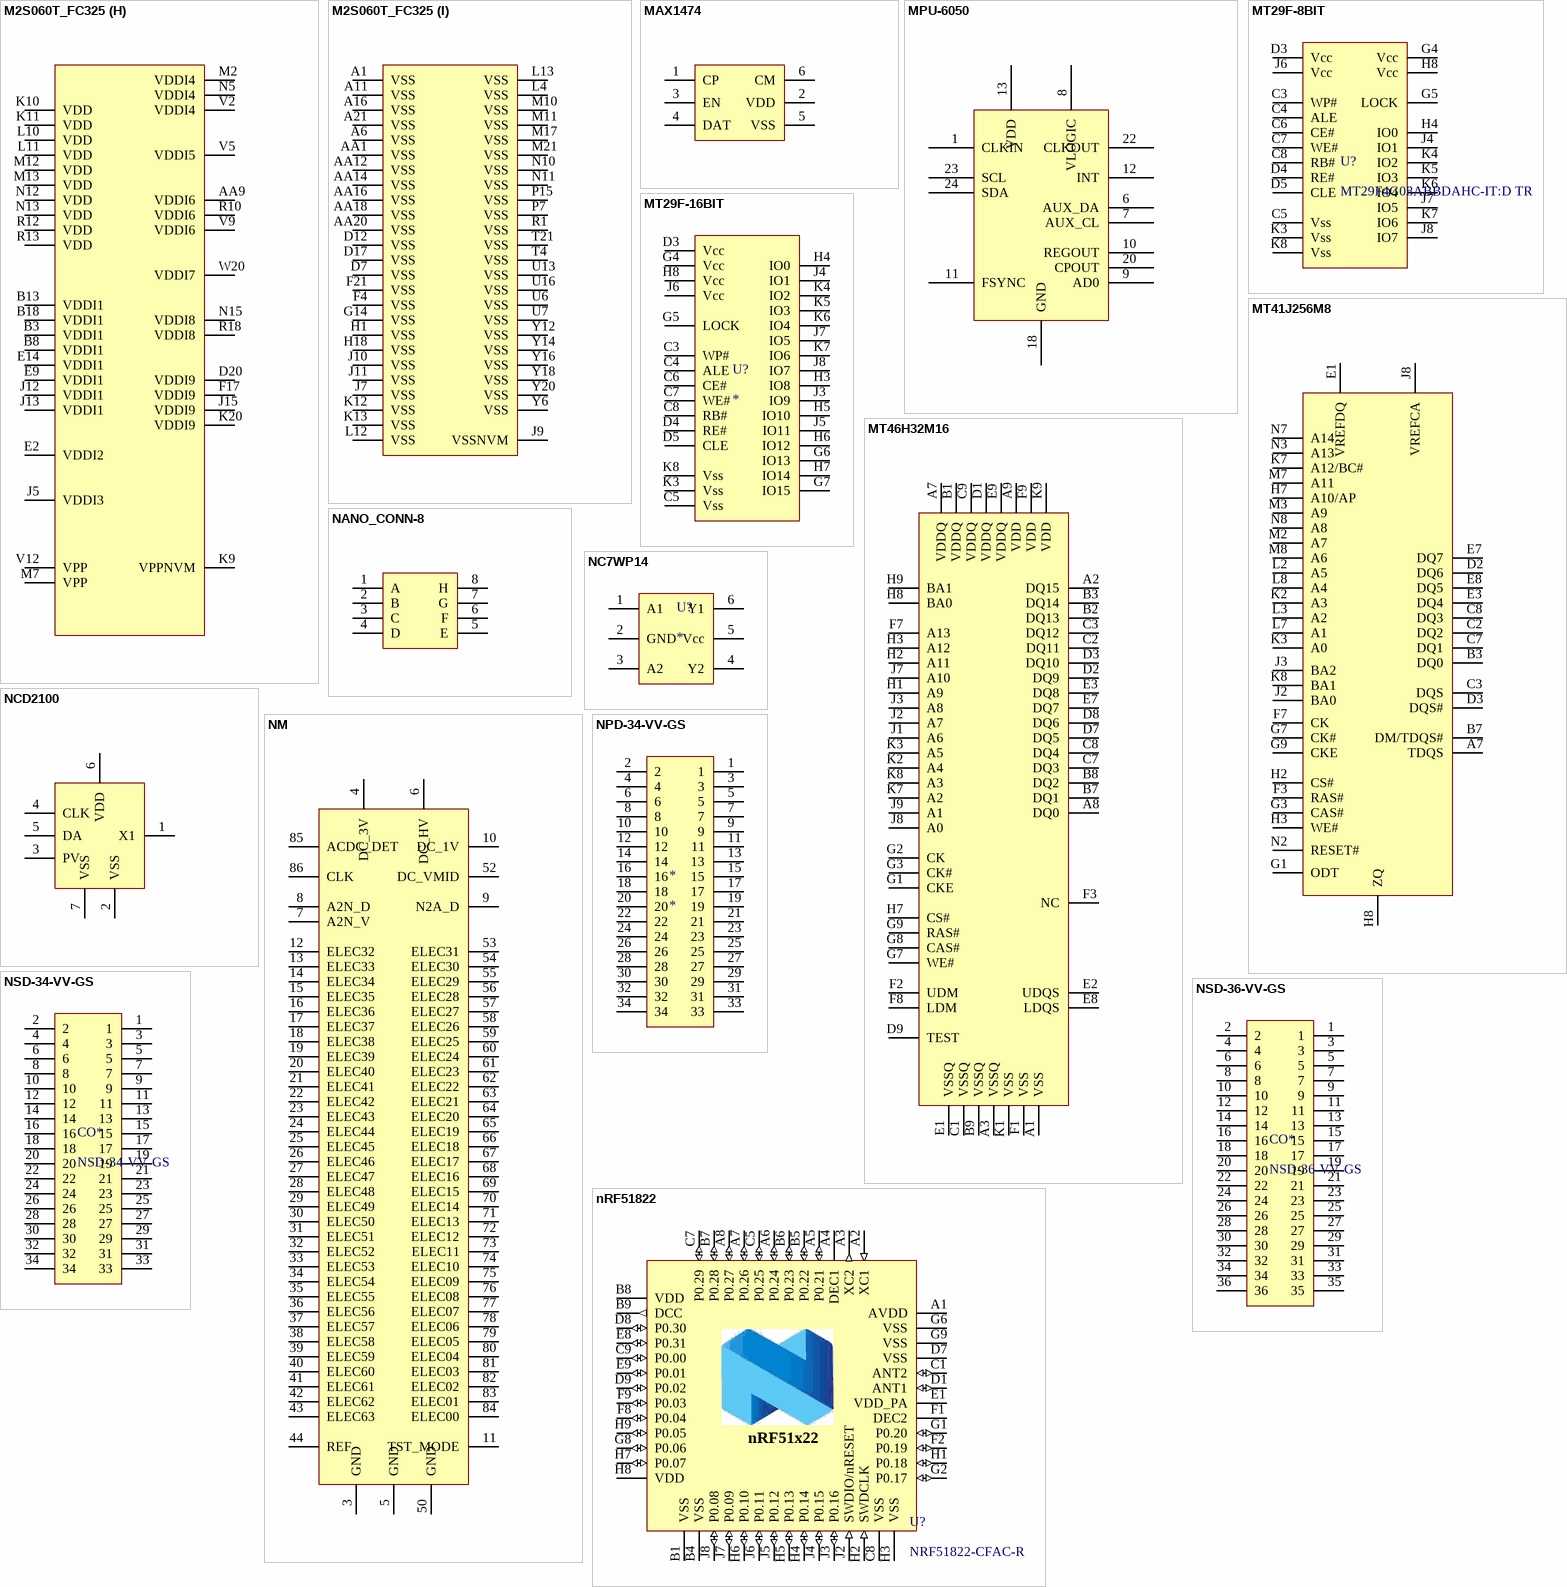
[diagram p10: symbols M2S060T_FC325 to NSD-36-VV-GS]

## M2S060T_FC325
designator U?, comment M2S025_FC325
SmartFusion2; Manufacturer PN: M2S025-FCS325; Manufacturer: Microsemi; Supplier: Microsemi; Supplier PN: M2S025-FCS325
footprint MCSM-CS-325 (BGA, 325-Balls, Body 11x11mm, Pitch 0.5mm)
part A pins: A2 DDRIO54NB1/MDDR_ADDR7, A3 DDRIO54PB1/MDDR_ODT, A4 DDRIO58NB1/MDDR_ADDR0, A5 DDRIO56PB1/MDDR_ADDR3, A7 DDRIO60NB1/MDDR_CLK_N, A8 DDRIO63PB1/MDDR_RAS_N, A9 DDRIO63NB1/MDDR_WE_N, A10 DDRIO64NB1/MDDR_DQ15, A12 DDRIO72PB1/MDDR_DM_RDQS0, A13 DDRIO72NB1/MDDR_DQ4, A14 DDRIO71PB1/MDDR_DQ5, A15 DDRIO73PB1/MDDR_DQS0, A17 DDRIO76NB1, A18 DDRIO76PB1/CCC_NW1_CLKI3, A19 DDRIO78PB1/MDDR_TMATCH_ECC_IN, A20 DDRIO81PB1/MDDR_TMATCH_ECC_OUT, B1 DDRIO52NB1/MDDR_ADDR11, B2 DDRIO52PB1/MDDR_ADDR10, B4 DDRIO58PB1/MDDR_BA2, B5 DDRIO56NB1/MDDR_ADDR4, B6 DDRIO59NB1/MDDR_BA1, B7 DDRIO60PB1/MDDR_CLK, B9 DDRIO64PB1/MDDR_DQ14/CCC_NE1_CLKI3, B10 DDRIO67NB1/MDDR_DQS1_N, B11 DDRIO69NB1/MDDR_DQ9, B12 DDRIO69PB1/MDDR_DQ8, B14 DDRIO71NB1/MDDR_DQ6, B15 DDRIO73NB1/MDDR_DQS0_N, B16 DDRIO79PB1/MDDR_DQS_ECC, B17 DDRIO79NB1/MDDR_DQS_ECC_N, B19 DDRIO78NB1/MDDR_DM_RDQS_ECC, B20 DDRIO81NB1/CCC_NW0_CLKI2, C1 DDRIO50PB1/MDDR_ADDR14, C2 DDRIO50NB1/MDDR_ADDR15, C6 DDRIO59PB1/MDDR_BA0, C11 DDRIO67PB1/MDDR_DQS1/GB8/CCC_NE0_CLKI3, C16 DDRIO80NB1/GB4/CCC_NW1_CLKI2, D4 DDRIO51NB1/MDDR_ADDR13, D5 DDRIO55PB1/MDDR_ADDR5, D6 DDRIO55NB1/MDDR_ADDR6, D8 DDRIO61NB1/MDDR_CAS_N, D9 DDRIO65PB1/MDDR_DQ12/GB12/CCC_NE1_CLKI2, D10 DDRIO66PB1/MDDR_TMATCH_0_IN, D11 DDRIO66NB1/MDDR_DM_RDQS1, D13 DDRIO75PB1/MDDR_DQ0, D14 DDRIO74PB1/MDDR_DQ2, D15 DDRIO74NB1/MDDR_DQ3, D16 DDRIO80PB1/GB0/CCC_NW0_CLKI3, D18 MDDR_IMP_CALIB, E4 DDRIO51PB1/MDDR_ADDR12, E5 DDRIO53NB1/MDDR_ADDR9, E6 DDRIO57NB1/MDDR_ADDR2, E7 DDRIO57PB1/MDDR_ADDR1, E8 DDRIO61PB1/MDDR_RESET_N, E10 DDRIO65NB1/MDDR_DQ13, E11 DDRIO68PB1/MDDR_DQ10/CCC_NE0_CLKI2, E12 DDRIO68NB1/MDDR_DQ11, E13 DDRIO75NB1/MDDR_DQ1, E15 DDRIO77PB1/MDDR_DQ_ECC1, E16 DDRIO77NB1/MDDR_DQ_ECC0, F5 DDRIO53PB1/MDDR_ADDR8, G8 VREF, G9 DDRIO62PB1/MDDR_CKE, G10 DDRIO62NB1/MDDR_CS_N, G11 DDRIO70PB1/MDDR_DQ7, G12 VREF, G13 DDRIO70NB1/MDDR_TMATCH_0_OUT
part B pins:  18 MSIO118PB9, AA2 MSIO2PB4, AA6 MSIO168PB6, AA7 MSIO168NB6, AA8 MSIO175NB6, AA10 MSIO162NB6/CCC_SW0_CLKI2, AA11 MSIO163NB6/PROBE_B, B21 MSIO122NB9, C20 MSIO120PB9, C21 MSIO122PB9, D1 MSIO43PB2/MMUART_1_CLK/GPIO_25_B/GB14/VCCC_SE1_CLKI, D2 MSIO43NB2/MMUART_1_RXD/GPIO_26_B, D21 MSIO120NB9, E1 MSIO42NB2/MMUART_1_TXD/GPIO_24_B, E17 MSIO128NB9, E18 MSIO128PB9, E20 MSIO130NB9, E21 MSIO130PB9, F1 MSIO42PB2/GB10/VCCC_SE0_CLKI, F2 MSIO41PB2/MMUART_1_RI/GPIO_15_B/CCC_NE1_CLKI1, F3 MSIO41NB2/MMUART_1_DCD/GPIO_16_B, F19 MSIO131NB9, F20 MSIO131PB9, G1 MSIO40NB2/MMUART_1_DSR/GPIO_14_B, G2 MSIO40PB2/MMUART_1_CTS/GPIO_13_B/CCC_NE0_CLKI1, G4 MSIO39PB2/MMUART_1_RTS/GPIO_11_B, G5 MSIO39NB2/MMUART_1_DTR/GPIO_12_B, G17 MSIO118NB9, G18 MSIO132NB9, G20 MSIO134NB9, G21 MSIO134PB9, H2 MSIO38NB3/GPIO_10_B, H4 MSIO35NB3/GPIO_4_B, H5 MSIO35PB3/GPIO_3_B, H17 MSIO132PB9, H20 MSIO119PB9, H21 MSIO119NB9, J1 MSIO38PB3/GPIO_9_B, J2 MSIO33NB3/GPIO_0_B, J4 MSIO30PB3, J17 MSIO135PB9, J18 MSIO135NB9, J20 MSIO136NB9, J21 MSIO136PB9, K1 MSIO33PB3/GPIO_31_A, K2 MSIO30NB3, K4 MSIO26NB3, K5 MSIO26PB3, K7 MSIO27NB3, K15 MSIO138PB9, K17 MSIO126PB9/CCC_NW0_CLKI0, K18 MSIO126NB9, K21 MSIO139PB9, L1 MSIO24PB4/SPI_1_SS2/GPIO_15_A, L2 MSIO24NB4/SPI_1_SS3/GPIO_16_A, L3 MSIO23NB4/SPI_1_SS1/GPIO_14_A, L5 MSIO17NB4/SPI_1_SS0/GPIO_13_A, L7 MSIO27PB3, L15 MSIO138NB9, L17 MSIO125PB9/CCC_NW1_CLKI0, L18 MSIO125NB9, L19 MSIO123PB9/GB6/CCC_NW1_CLKI1, L20 MSIO124PB9/GB2/CCC_NW0_CLKI1, L21 MSIO139NB9, M1 MSIO22PB4/SPI_0_SS1/GPIO_8_A/USB_DATA5_A, M4 MSIO23PB4/SPI_0_SS3/GPIO_10_A/USB_DATA7_A, M5 MSIO17PB4/SPI_1_SDO/GPIO_12_A, M18 MSIO123NB9, M20 MSIO124NB9, N1 MSIO22NB4/SPI_0_SS2/GPIO_9_A/USB_DATA6_A, N2 MSIO20NB4/GPIO_26_A/GB13/VCCC_SE1_CLKI, N4 MSIO16PB4/SPI_1_CLK, N7 MSIO16NB4/SPI_1_SDI/GPIO_11_A, N20 MSIO140PB9, N21 MSIO140NB9, P1 MSIO20PB4/GPIO_25_A/GB9/VCCC_SE0_CLKI, P2 MSIO18PB4/SPI_1_SS4/GPIO_17_A, P4 MSIO13PB4/SPI_0_SDO/GPIO_6_A/USB_STP_A, P5 MSIO13NB4/SPI_0_SS0/GPIO_7_A/USB_NXT_A, R2 MSIO18NB4/SPI_1_SS5/GPIO_18_A, R4 MSIO11PB4/I2C_1_SDA/GPIO_0_A/USB_DATA3_A/CCC_NE0_CLKI0, R5 MSIO11NB4/I2C_1_SCL/GPIO_1_A/USB_DATA4_A/CCC_NE1_CLKI0, R8 MSIO179PB6/VCCC_SE1_CLKI, R9 MSIO179NB6, T1 MSIO14NB4/SPI_0_SS5/GPIO_20_A, T2 MSIO14PB4/SPI_0_SS4/GPIO_19_A, T3 MSIO4NB4, T5 MSIO8PB4/CAN_RX/GPIO_3_A/USB_DATA1_A, U1 MSIO12NB4/SPI_0_SDI/GPIO_5_A/USB_DIR_A, U2 MSIO12PB4/SPI_0_CLK/USB_XCLK_A, U4 MSIO4PB4, U5 MSIO8NB4/CAN_TX_EN_N/GPIO_4_A/USB_DATA2_A, U8 MSIO169PB6, U9 MSIO169NB6, U10 MSIO176PB6/GB11/VCCC_SE0_CLKI, U11 MSIO167PB6/GB3/CCC_SW0_CLKI3, U12 MSIO167NB6/GB7/CCC_SW1_CLKI2, V1 MSIO7NB4/CAN_TX/GPIO_2_A/USB_DATA0_A, V6 MSIO172NB6, V7 MSIO171PB6, V8 MSIO171NB6, V10 MSIO176NB6, V11 MSIO174NB6, W1 MSIO7PB4, W2 MSIO5PB4, W6 MSIO172PB6, W11 MSIO174PB6/CCC_SW1_CLKI3, Y1 MSIO2NB4, Y2 MSIO5NB4, Y7 MSIO178NB6, Y8 MSIO178PB6/GB15/VCCC_SE1_CLKI, Y9 MSIO175PB6/VCCC_SE0_CLKI, Y10 MSIO162PB6, Y11 MSIO163PB6/PROBE_A
part C pins: AA21 MSIOD160NB7/SERDES_0_REFCLK0_N, M15 MSIOD145NB8, N17 MSIOD145PB8/CCC_SW0_CLKI0, N18 MSIOD144PB8/CCC_SW1_CLKI0, P17 MSIOD144NB8, P18 MSIOD154PB8, P20 MSIOD142NB8, P21 MSIOD142PB8/GB5/CCC_SW1_CLKI1, R17 MSIOD154NB8, R20 MSIOD143NB8, R21 MSIOD143PB8/GB1/CCC_SW0_CLKI1, T17 MSIOD153PB8, T18 MSIOD153NB8, T19 MSIOD152PB8, T20 MSIOD152NB8, U18 MSIOD146NB8, U20 MSIOD146PB8, U21 MSIOD148NB8, V20 MSIOD148PB8, V21 MSIOD161NB7/SERDES_0_REFCLK1_N, W21 MSIOD161PB7/SERDES_0_REFCLK1_P, Y21 MSIOD160PB7/SERDES_0_REFCLK0_P
part D pins: AA13 SERDES_0_TXD2_N, AA15 SERDES_0_RXD2_P (power), AA17 SERDES_0_TXD0_P, AA19 SERDES_0_RXD0_N (power), U14 SERDES_0_L23_VDDAIO (power), U15 SERDES_0_PLL_VDDA (power), U17 SERDES_0_PLL_VSSA (power), V13 SERDES_0_L23_REFRET (power), V14 SERDES_0_L23_VDDAPLL (power), V15 SERDES_0_L01_REFRET, V16 SERDES_0_L01_VDDAIO (power), V17 SERDES_0_L23_REXT, V18 SERDES_0_L01_REXT, W16 SERDES_0_L01_VDDAPLL (power), Y13 SERDES_0_TXD2_P, Y15 SERDES_0_RXD2_N (power), Y17 SERDES_0_TXD0_N, Y19 SERDES_0_RXD0_P (power)
part E pins: G7 CCC_NE0_NE1_MSS_MDDR_PLL_VSSA (power), G15 CCC_NW0_NW1_PLL_VDDA (power), H7 CCC_NE0_NE1_MSS_MDDR_PLL_VDDA (power), H15 CCC_NW0_NW1_PLL_VSSA (power), R14 CCC_SW0_SW1_PLL_VDDA (power), R15 CCC_SW0_SW1_PLL_VSSA (power)
part F pins: AA3 JTAG_TMS/M3_TMS/M3_SWDIO, L9 JTAG_TCK/M3_TCK, M9 DEVRST_N, N9 JTAG_TDI/M3_TDI, R7 JTAG_TDO/M3_TDO/M3_SWO, R11 NC, V4 JTAGSEL, Y3 JTAG_TRSTB/M3_TRSTB
part G pins: AA4 XTLOSC_MAIN_XTAL, AA5 XTLOSC_AUX_EXTAL, Y4 XTLOSC_MAIN_EXTAL, Y5 XTLOSC_AUX_XTAL
part H pins: AA9 VDDI6, B3 VDDI1, B8 VDDI1, B13 VDDI1, B18 VDDI1, D20 VDDI9, E2 VDDI2 (power), E9 VDDI1, E14 VDDI1, F17 VDDI9, J5 VDDI3 (power), J12 VDDI1, J13 VDDI1, J15 VDDI9, K9 VPPNVM (power), K10 VDD (power), K11 VDD (power), K20 VDDI9, L10 VDD (power), L11 VDD (power), M2 VDDI4 (power), M7 VPP (power), M12 VDD (power), M13 VDD (power), N5 VDDI4 (power), N12 VDD (power), N13 VDD (power), N15 VDDI8 (power), R10 VDDI6, R12 VDD (power), R13 VDD (power), R18 VDDI8, V2 VDDI4 (power), V5 VDDI5, V9 VDDI6, V12 VPP (power), W20 VDDI7
part I pins: A1 VSS (power), A6 VSS (power), A11 VSS (power), A16 VSS (power), A21 VSS (power), AA1 VSS (power), AA12 VSS (power), AA14 VSS (power), AA16 VSS (power), AA18 VSS (power), AA20 VSS (power), D7 VSS (power), D12 VSS (power), D17 VSS (power), F4 VSS (power), F21 VSS (power), G14 VSS (power), H1 VSS (power), H18 VSS (power), J7 VSS (power), J9 VSSNVM (power), J10 VSS (power), J11 VSS (power), K12 VSS (power), K13 VSS (power), L4 VSS (power), L12 VSS (power), L13 VSS (power), M10 VSS (power), M11 VSS (power), M17 VSS (power), M21 VSS (power), N10 VSS (power), N11 VSS (power), P7 VSS (power), P15 VSS (power), R1 VSS (power), T4 VSS (power), T21 VSS (power), U6 VSS (power), U7 VSS (power), U13 VSS (power), U16 VSS (power), Y6 VSS (power), Y12 VSS (power), Y14 VSS (power), Y16 VSS (power), Y18 VSS (power), Y20 VSS (power)

## MAX1474
designator U?
Programmable capacitor
footprint SC70-6 - Maxim (QFN, 6-Leads, Body 2,00x2,00mm, Pitch 0,65mm, Thermal Pad 1,60x1,00mm, IPC Medium Density)
pins: 1 CP, 2 VDD, 3 EN, 4 DAT, 5 VSS, 6 CM

## MPU-6050
designator U?
Accelerometer; Manufacturer: InvenSense; Supplier PN: 1428-1007-1-ND; Supplier: Digikey; Manufacturer PN: MPU-6050
footprint QFN-24 (From Maxim doc 90-0219)
pins: 0 CEN hidden to GND, 1 CLKIN, 2 NC hidden, 3 NC hidden, 4 NC hidden, 5 NC hidden, 6 AUX_DA, 7 AUX_CL, 8 VLOGIC, 9 AD0, 10 REGOUT, 11 FSYNC, 12 INT, 13 VDD, 14 NC hidden, 15 NC hidden, 16 NC hidden, 17 NC hidden, 18 GND, 19 RESV hidden, 20 CPOUT, 21 RESV hidden, 22 CLKOUT, 23 SCL, 24 SDA

## MT29F-8BIT
designator U?, comment MT29F4G08ABBDAHC-IT:D TR
Flash; Manufacturer: Micron; Manufacturer PN: MT29F4G08ABBDAHC-IT:D TR; Supplier: Digikey; Supplier PN: 557-1459-1-ND
footprint BGA63 (BGA, 63-Leads, Body 9,00x11,00mmx1,00mm, Pitch 0,80mm)
pins: A1 NC hidden, A2 NC hidden, A9 NC hidden, A10 NC hidden, B1 NC hidden, B9 NC hidden, B10 NC hidden, C3 WP#, C4 ALE, C5 Vss, C6 CE#, C7 WE#, C8 RB#, D3 Vcc, D4 RE#, D5 CLE, D6 NC hidden, D7 NC hidden, D8 NC hidden, E3 NC hidden, E4 NC hidden, E5 NC hidden, E6 NC hidden, E7 NC hidden, E8 NC hidden, F3 NC hidden, F4 NC hidden, F5 NC hidden, F6 NC hidden, F7 Vss hidden, F8 NC hidden, G3 DNU hidden, G4 Vcc, G5 LOCK, G6 NC hidden, G7 NC hidden, G8 DNU hidden, H3 NC hidden, H4 IO0, H5 NC hidden, H6 NC hidden, H7 NC hidden, H8 Vcc, J3 NC hidden, J4 IO1, J5 NC hidden, J6 Vcc, J7 IO5, J8 IO7, K3 Vss, K4 IO2, K5 IO3, K6 IO4, K7 IO6, K8 Vss, L1 NC hidden, L2 NC hidden, L9 NC hidden, L10 NC hidden, M1 NC hidden, M2 NC hidden, M9 NC hidden, M10 NC hidden

## MT29F-16BIT
designator U?
Flash
footprint BGA63 (BGA, 63-Leads, Body 9,00x11,00mmx1,00mm, Pitch 0,80mm)
pins: A1 NC hidden, A2 NC hidden, A9 NC hidden, A10 NC hidden, B1 NC hidden, B9 NC hidden, B10 NC hidden, C3 WP#, C4 ALE, C5 Vss, C6 CE#, C7 WE#, C8 RB#, D3 Vcc, D4 RE#, D5 CLE, D6 NC hidden, D7 NC hidden, D8 NC hidden, E3 NC hidden, E4 NC hidden, E5 NC hidden, E6 NC hidden, E7 NC hidden, E8 NC hidden, F3 NC hidden, F4 NC hidden, F5 NC hidden, F6 NC hidden, F7 Vss hidden, F8 NC hidden, G3 DNU hidden, G4 Vcc, G5 LOCK, G6 IO13, G7 IO15, G8 DNU hidden, H3 IO8, H4 IO0, H5 IO10, H6 IO12, H7 IO14, H8 Vcc, J3 IO9, J4 IO1, J5 IO11, J6 Vcc, J7 IO5, J8 IO7, K3 Vss, K4 IO2, K5 IO3, K6 IO4, K7 IO6, K8 Vss, L1 NC hidden, L2 NC hidden, L9 NC hidden, L10 NC hidden, M1 NC hidden, M2 NC hidden, M9 NC hidden, M10 NC hidden

## MT41J256M8
designator U?
Micron DRAM, 2Gb, 8x256
footprint TFBGA-78
pins: A1 VSS hidden to GND, A2 VDD (power) hidden to VDD_1.5, A7 TDQS, A8 VSS hidden to GND, A9 VDD (power) hidden to VDD_1.5, B1 VSS hidden to GND, B2 VSSQ hidden to GND, B3 DQ0, B7 DM/TDQS#, B8 VSSQ hidden to GND, B9 VDDQ (power) hidden to VDD_1.5, C1 VDDQ (power) hidden to VDD_1.5, C2 DQ2, C3 DQS, C7 DQ1, C8 DQ3, C9 VSSQ hidden to GND, D1 VSSQ hidden to GND, D2 DQ6, D3 DQS#, D7 VDD (power) hidden "VDD_1.5", D8 VSS hidden to GND, D9 VSSQ hidden to GND, E1 VREFDQ, E2 VDDQ (power) hidden to VDD_1.5, E3 DQ4, E7 DQ7, E8 DQ5, E9 VDDQ (power) hidden to VDD_1.5, F2 VSS hidden to GND, F3 RAS#, F7 CK, F8 VSS hidden to GND, G1 ODT, G2 VDD (power) hidden to VDD_1.5, G3 CAS#, G7 CK#, G8 VDD (power) hidden to VDD_1.5, G9 CKE, H2 CS#, H3 WE#, H7 A10/AP, H8 ZQ, J1 VSS hidden to GND, J2 BA0, J3 BA2, J8 VREFCA, J9 VSS hidden to GND, K1 VDD (power) hidden to VDD_1.5, K2 A3, K3 A0, K7 A12/BC#, K8 BA1, K9 VDD (power) hidden to VDD_1.5, L1 VSS hidden to GND, L2 A5, L3 A2, L7 A1, L8 A4, L9 VSS hidden to GND, M1 VDD (power) hidden to VDD_1.5, M2 A7, M3 A9, M7 A11, M8 A6, M9 VDD (power) hidden to VDD_1.5, N1 VSS hidden to GND, N2 RESET#, N3 A13, N7 A14, N8 A8, N9 VSS hidden to GND